# Altium integrated library Xilinx Virtex.IntLib: 240 symbols (part 29 of 34)
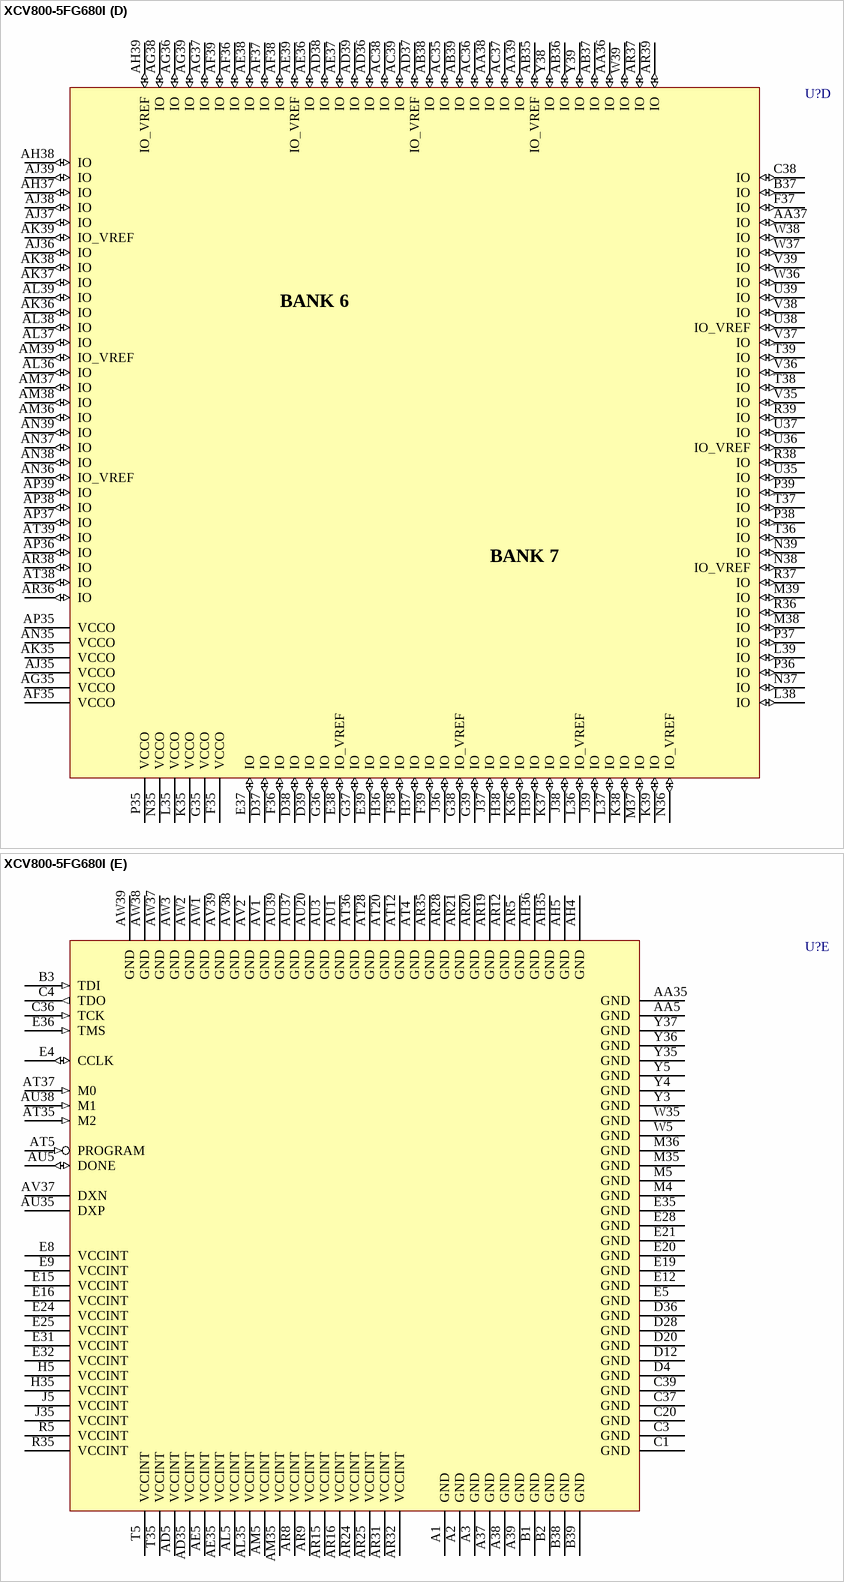
[diagram p408: symbol XCV800-5FG680I]

## XCV800-5FG680I
designator U?
Virtex 2.5V FPGA, 680-Ball FBGA, Industrial Grade; PackageDocument: ver1.1, Apr-2001; Note: Solder pads are defined by the copper, i.e. non-soldermask defined (NSMD); Published: 19-Sep-2001; LatestRevisionDate: 17-Jul-2002; LatestRevisionNote: Re-released for DXP Platform.; DatasheetDocument: Dec-2002; PackageReference: FG680; Publisher: Altium Limited
footprint FG680 (680-Ball Fine Pitch Ball Grid Array (FG680))
3D model XCV800-FG680 (680-Ball Fine Pitch Ball Grid Array (FG680))
signal-integrity model XCV800_FG680 (Virtex)
part A pins: A4 IO (io), A5 IO (io), A6 IO (io), A7 IO (io), A8 IO (io), A9 IO (io), A10 IO (io), A11 IO (io), A12 IO (io), A13 IO (io), A14 IO (io), A15 IO (io), A16 IO (io), A17 IO (io), A18 IO (io), A19 IO (io), A20 GCK3 (in), A21 IO (io), A22 IO (io), A23 IO (io), A24 IO (io), A25 IO (io), A26 IO_VREF (io), A27 IO (io), A28 IO (io), A29 IO (io), A30 IO (io), A31 IO (io), A32 IO (io), A33 IO_VREF (io), A34 IO (io), A35 IO (io), A36 IO (io), B4 IO_WRITE (io), B5 IO (io), B6 IO_VREF (io), B7 IO (io), B8 IO_VREF (io), B9 IO (io), B10 IO (io), B11 IO (io), B12 IO (io), B13 IO (io), B14 IO_VREF (io), B15 IO (io), B16 IO (io), B17 IO (io), B18 IO_VREF (io), B19 IO (io), B20 IO (io), B21 IO (io), B22 IO (io), B23 IO (io), B24 IO (io), B25 IO (io), B26 IO (io), B27 IO (io), B28 IO_VREF (io), B29 IO (io), B30 IO_VREF (io), B31 IO (io), B32 IO (io), B33 IO (io), B34 IO (io), B35 IO (io), B36 IO (io), C5 IO (io), C6 IO (io), C7 IO (io), C8 IO (io), C9 IO (io), C10 IO (io), C11 IO (io), C12 IO (io), C13 IO (io), C14 IO (io), C15 IO (io), C16 IO (io), C17 IO (io), C18 IO (io), C19 IO (io), C21 IO (io), C22 IO (io), C23 IO_VREF (io), C24 IO_VREF (io), C25 IO (io), C26 IO (io), C27 IO (io), C28 IO (io), C29 IO (io), C30 IO (io), C31 IO (io), C32 IO (io), C33 IO (io), C34 IO (io), C35 IO (io), D5 IO_CS (io), D6 IO (io), D7 IO (io), D8 IO (io), D9 IO (io), D10 IO (io), D11 IO_VREF (io), D13 IO_VREF (io), D14 IO (io), D15 IO (io), D16 IO (io), D17 IO_VREF (io), D18 IO (io), D19 IO (io), D21 GCK2 (in), D22 IO (io), D23 IO (io), D24 IO (io), D25 IO (io), D26 IO (io), D27 IO (io), D29 IO (io), D30 IO (io), D31 IO (io), D32 IO (io), D33 IO_VREF (io), D34 IO (io), D35 IO (io), E6 VCCO (power), E7 VCCO (power), E10 VCCO (power), E11 VCCO (power), E13 VCCO (power), E14 VCCO (power), E17 IO (io), E18 IO (io), E22 IO (io), E23 IO (io), E26 VCCO (power), E27 VCCO (power), E29 VCCO (power), E30 VCCO (power), E33 VCCO (power), E34 VCCO (power)
part B pins: AA1 IO (io), AA2 IO (io), AA3 IO (io), AA4 IO (io), AB1 IO (io), AB2 IO (io), AB3 IO (io), AB4 IO (io), AB5 IO (io), AC1 IO_VREF (io), AC2 IO (io), AC3 IO (io), AC4 IO (io), AC5 IO (io), AD1 IO (io), AD2 IO (io), AD3 IO_D4 (io), AD4 IO (io), AE1 IO (io), AE2 IO (io), AE3 IO (io), AE4 IO (io), AF1 IO (io), AF2 IO (io), AF3 IO_VREF (io), AF4 IO (io), AF5 VCCO (power), AG1 IO (io), AG2 IO_D5 (io), AG3 IO (io), AG4 IO (io), AG5 VCCO (power), AH1 IO_D6 (io), AH2 IO (io), AH3 IO (io), AJ1 IO (io), AJ2 IO_VREF (io), AJ3 IO (io), AJ4 IO (io), AJ5 VCCO (power), AK1 IO (io), AK2 IO (io), AK3 IO_VREF (io), AK4 IO (io), AK5 VCCO (power), AL1 IO (io), AL2 IO (io), AL3 IO (io), AL4 IO_VREF (io), AM1 IO (io), AM2 IO (io), AM3 IO (io), AM4 IO (io), AN1 IO (io), AN2 IO (io), AN3 IO (io), AN4 IO (io), AN5 VCCO (power), AP1 IO (io), AP2 IO (io), AP3 IO (io), AP4 IO (io), AP5 VCCO (power), AR1 IO_VREF (io), AR2 IO (io), AR3 IO (io), AR4 IO_D7 (io), AT1 IO (io), AT2 IO (io), AT3 IO (io), AU2 IO_INIT (io), C2 IO_DIN_D0 (io), D1 IO (io), D2 IO (io), D3 IO (io), E1 IO (io), E2 IO (io), E3 IO_DOUT_BUSY (io), F1 IO (io), F2 IO (io), F3 IO (io), F4 IO (io), F5 VCCO (power), G1 IO_VREF (io), G2 IO (io), G3 IO (io), G4 IO (io), G5 VCCO (power), H1 IO (io), H2 IO (io), H3 IO (io), H4 IO_VREF (io), J1 IO_VREF (io), J2 IO (io), J3 IO (io), J4 IO (io), K1 IO (io), K2 IO (io), K3 IO (io), K4 IO (io), K5 VCCO (power), L1 IO (io), L2 IO_VREF (io), L3 IO (io), L4 IO (io), L5 VCCO (power), M1 IO (io), M2 IO (io), M3 IO (io), N1 IO_VREF (io), N2 IO (io), N3 IO (io), N4 IO (io), N5 VCCO (power), P1 IO (io), P2 IO (io), P3 IO_D2 (io), P4 IO_D1 (io), P5 VCCO (power), R1 IO_D3 (io), R2 IO (io), R3 IO (io), R4 IO (io), T1 IO (io), T2 IO (io), T3 IO (io), T4 IO (io), U1 IO (io), U2 IO (io), U3 IO (io), U4 IO (io), U5 IO (io), V1 IO (io), V2 IO (io), V3 IO (io), V4 IO (io), V5 IO_VREF (io), W1 IO (io), W2 IO (io), W3 IO_VREF (io), W4 IO (io), Y1 IO_VREF (io), Y2 IO (io)
part C pins: AR6 VCCO (power), AR7 VCCO (power), AR10 VCCO (power), AR11 VCCO (power), AR13 VCCO (power), AR14 VCCO (power), AR17 IO (io), AR18 IO (io), AR22 IO (io), AR23 IO (io), AR26 VCCO (power), AR27 VCCO (power), AR29 VCCO (power), AR30 VCCO (power), AR33 VCCO (power), AR34 VCCO (power), AT6 IO (io), AT7 IO (io), AT8 IO (io), AT9 IO (io), AT10 IO (io), AT11 IO (io), AT13 IO (io), AT14 IO (io), AT15 IO (io), AT16 IO (io), AT17 IO (io), AT18 IO (io), AT19 IO_VREF (io), AT21 IO (io), AT22 IO (io), AT23 IO (io), AT24 IO (io), AT25 IO_VREF (io), AT26 IO (io), AT27 IO_VREF (io), AT29 IO (io), AT30 IO (io), AT31 IO (io), AT32 IO (io), AT33 IO (io), AT34 IO (io), AU4 IO (io), AU6 IO (io), AU7 IO_VREF (io), AU8 IO (io), AU9 IO (io), AU10 IO (io), AU11 IO (io), AU12 IO (io), AU13 IO (io), AU14 IO (io), AU15 IO (io), AU16 IO (io), AU17 IO_VREF (io), AU18 IO (io), AU19 IO (io), AU21 IO (io), AU22 GCK1 (in), AU23 IO (io), AU24 IO (io), AU25 IO (io), AU26 IO (io), AU27 IO (io), AU28 IO (io), AU29 IO_VREF (io), AU30 IO (io), AU31 IO_VREF (io), AU32 IO (io), AU33 IO (io), AU34 IO (io), AU36 IO (io), AV3 IO (io), AV4 IO (io), AV5 IO (io), AV6 IO (io), AV7 IO (io), AV8 IO_VREF (io), AV9 IO (io), AV10 IO_VREF (io), AV11 IO (io), AV12 IO (io), AV13 IO (io), AV14 IO_VREF (io), AV15 IO (io), AV16 IO (io), AV17 IO (io), AV18 IO (io), AV19 IO (io), AV20 IO (io), AV21 IO (io), AV22 IO (io), AV23 IO (io), AV24 IO (io), AV25 IO (io), AV26 IO (io), AV27 IO (io), AV28 IO (io), AV29 IO (io), AV30 IO (io), AV31 IO (io), AV32 IO (io), AV33 IO (io), AV34 IO (io), AV35 IO_VREF (io), AV36 IO (io), AW4 IO (io), AW5 IO (io), AW6 IO (io), AW7 IO (io), AW8 IO (io), AW9 IO (io), AW10 IO (io), AW11 IO_VREF (io), AW12 IO (io), AW13 IO (io), AW14 IO (io), AW15 IO (io), AW16 IO (io), AW17 IO (io), AW18 IO (io), AW19 GCK0 (in), AW20 IO (io), AW21 IO_VREF (io), AW22 IO (io), AW23 IO_VREF (io), AW24 IO (io), AW25 IO (io), AW26 IO (io), AW27 IO (io), AW28 IO (io), AW29 IO (io), AW30 IO (io), AW31 IO (io), AW32 IO (io), AW33 IO (io), AW34 IO (io), AW35 IO (io), AW36 IO (io)
part D pins: AA36 IO (io), AA37 IO (io), AA38 IO (io), AA39 IO (io), AB35 IO_VREF (io), AB36 IO (io), AB37 IO (io), AB38 IO (io), AB39 IO (io), AC35 IO (io), AC36 IO (io), AC37 IO (io), AC38 IO (io), AC39 IO (io), AD36 IO (io), AD37 IO_VREF (io), AD38 IO (io), AD39 IO (io), AE36 IO (io), AE37 IO (io), AE38 IO (io), AE39 IO_VREF (io), AF35 VCCO (power), AF36 IO (io), AF37 IO (io), AF38 IO (io), AF39 IO (io), AG35 VCCO (power), AG36 IO (io), AG37 IO (io), AG38 IO (io), AG39 IO (io), AH37 IO (io), AH38 IO (io), AH39 IO_VREF (io), AJ35 VCCO (power), AJ36 IO (io), AJ37 IO (io), AJ38 IO (io), AJ39 IO (io), AK35 VCCO (power), AK36 IO (io), AK37 IO (io), AK38 IO (io), AK39 IO_VREF (io), AL36 IO (io), AL37 IO (io), AL38 IO (io), AL39 IO (io), AM36 IO (io), AM37 IO (io), AM38 IO (io), AM39 IO_VREF (io), AN35 VCCO (power), AN36 IO_VREF (io), AN37 IO (io), AN38 IO (io), AN39 IO (io), AP35 VCCO (power), AP36 IO (io), AP37 IO (io), AP38 IO (io), AP39 IO (io), AR36 IO (io), AR37 IO (io), AR38 IO (io), AR39 IO (io), AT38 IO (io), AT39 IO (io), B37 IO (io), C38 IO (io), D37 IO (io), D38 IO (io), D39 IO (io), E37 IO (io), E38 IO_VREF (io), E39 IO (io), F35 VCCO (power), F36 IO (io), F37 IO (io), F38 IO (io), F39 IO (io), G35 VCCO (power), G36 IO (io), G37 IO (io), G38 IO_VREF (io), G39 IO (io), H36 IO (io), H37 IO (io), H38 IO (io), H39 IO (io), J36 IO (io), J37 IO (io), J38 IO (io), J39 IO (io), K35 VCCO (power), K36 IO (io), K37 IO (io), K38 IO (io), K39 IO (io), L35 VCCO (power), L36 IO_VREF (io), L37 IO (io), L38 IO (io), L39 IO (io), M37 IO (io), M38 IO (io), M39 IO (io), N35 VCCO (power), N36 IO_VREF (io), N37 IO (io), N38 IO_VREF (io), N39 IO (io), P35 VCCO (power), P36 IO (io), P37 IO (io), P38 IO (io), P39 IO (io), R36 IO (io), R37 IO (io), R38 IO (io), R39 IO (io), T36 IO (io), T37 IO (io), T38 IO (io), T39 IO (io), U35 IO (io), U36 IO_VREF (io), U37 IO (io), U38 IO_VREF (io), U39 IO (io), V35 IO (io), V36 IO (io), V37 IO (io), V38 IO (io), V39 IO (io), W36 IO (io), W37 IO (io), W38 IO (io), W39 IO (io), Y38 IO (io), Y39 IO (io)
part E pins: A1 GND (power), A2 GND (power), A3 GND (power), A37 GND (power), A38 GND (power), A39 GND (power), AA5 GND (power), AA35 GND (power), AD5 VCCINT (power), AD35 VCCINT (power), AE5 VCCINT (power), AE35 VCCINT (power), AH4 GND (power), AH5 GND (power), AH35 GND (power), AH36 GND (power), AL5 VCCINT (power), AL35 VCCINT (power), AM5 VCCINT (power), AM35 VCCINT (power), AR5 GND (power), AR8 VCCINT (power), AR9 VCCINT (power), AR12 GND (power), AR15 VCCINT (power), AR16 VCCINT (power), AR19 GND (power), AR20 GND (power), AR21 GND (power), AR24 VCCINT (power), AR25 VCCINT (power), AR28 GND (power), AR31 VCCINT (power), AR32 VCCINT (power), AR35 GND (power), AT4 GND (power), AT5 PROGRAM (in), AT12 GND (power), AT20 GND (power), AT28 GND (power), AT35 M2 (in), AT36 GND (power), AT37 M0 (in), AU1 GND (power), AU3 GND (power), AU5 DONE (io), AU20 GND (power), AU35 DXP, AU37 GND (power), AU38 M1 (in), AU39 GND (power), AV1 GND (power), AV2 GND (power), AV37 DXN, AV38 GND (power), AV39 GND (power), AW1 GND (power), AW2 GND (power), AW3 GND (power), AW37 GND (power), AW38 GND (power), AW39 GND (power), B1 GND (power), B2 GND (power), B3 TDI (in), B38 GND (power), B39 GND (power), C1 GND (power), C3 GND (power), C4 TDO (out), C20 GND (power), C36 TCK (in), C37 GND (power), C39 GND (power), D4 GND (power), D12 GND (power), D20 GND (power), D28 GND (power), D36 GND (power), E4 CCLK (io), E5 GND (power), E8 VCCINT (power), E9 VCCINT (power), E12 GND (power), E15 VCCINT (power), E16 VCCINT (power), E19 GND (power), E20 GND (power), E21 GND (power), E24 VCCINT (power), E25 VCCINT (power), E28 GND (power), E31 VCCINT (power), E32 VCCINT (power), E35 GND (power), E36 TMS (in), H5 VCCINT (power), H35 VCCINT (power), J5 VCCINT (power), J35 VCCINT (power), M4 GND (power), M5 GND (power), M35 GND (power), M36 GND (power), R5 VCCINT (power), R35 VCCINT (power), T5 VCCINT (power), T35 VCCINT (power), W5 GND (power), W35 GND (power), Y3 GND (power), Y4 GND (power), Y5 GND (power), Y35 GND (power), Y36 GND (power), Y37 GND (power)
part A text: BANK 0; BANK 1
part B text: BANK 2; BANK 3
part C text: BANK 4; BANK 5
part D text: BANK 6; BANK 7

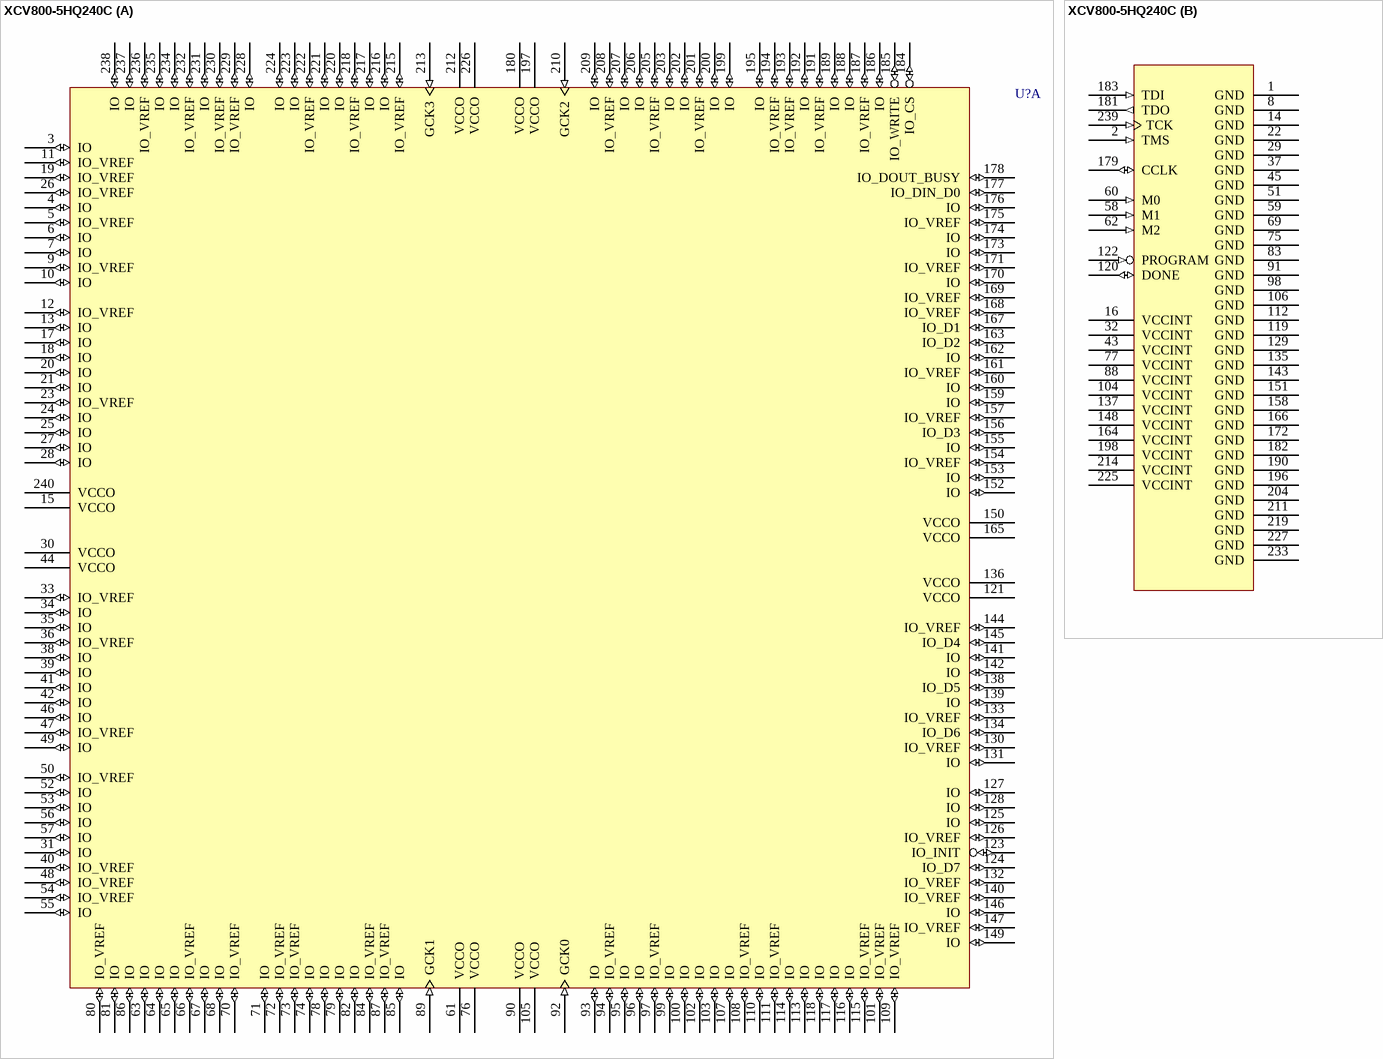
[diagram p328: symbol XCV800-5HQ240C]

## XCV800-5HQ240C
designator U?
Virtex 2.5V FPGA, 240-Pin HQFP, Commercial Grade; PackageDocument: ver1.1, Oct-2002; Published: 19-Sep-2001; LatestRevisionDate: 17-Jul-2002; LatestRevisionNote: Re-released for DXP Platform.; DatasheetDocument: Dec-2002; PackageReference: HQ240; Publisher: Altium Limited; Code_JEDEC: MO-143-GA
footprint HQ240 (240-Pin Heat Sink Quad Flat Pack (HQ240))
3D model XCV800-HQ240 (240-Pin Heat Sink Quad Flat Pack (HQ240))
signal-integrity model XCV800_HQ240 (Virtex)
part A pins: 3 IO (io), 4 IO (io), 5 IO_VREF (io), 6 IO (io), 7 IO (io), 9 IO_VREF (io), 10 IO (io), 11 IO_VREF (io), 12 IO_VREF (io), 13 IO (io), 15 VCCO (power), 17 IO (io), 18 IO (io), 19 IO_VREF (io), 20 IO (io), 21 IO (io), 23 IO_VREF (io), 24 IO (io), 25 IO (io), 26 IO_VREF (io), 27 IO (io), 28 IO (io), 30 VCCO (power), 31 IO (io), 33 IO_VREF (io), 34 IO (io), 35 IO (io), 36 IO_VREF (io), 38 IO (io), 39 IO (io), 40 IO_VREF (io), 41 IO (io), 42 IO (io), 44 VCCO (power), 46 IO (io), 47 IO_VREF (io), 48 IO_VREF (io), 49 IO (io), 50 IO_VREF (io), 52 IO (io), 53 IO (io), 54 IO_VREF (io), 55 IO (io), 56 IO (io), 57 IO (io), 61 VCCO (power), 63 IO (io), 64 IO (io), 65 IO (io), 66 IO_VREF (io), 67 IO (io), 68 IO (io), 70 IO_VREF (io), 71 IO (io), 72 IO_VREF (io), 73 IO_VREF (io), 74 IO (io), 76 VCCO (power), 78 IO (io), 79 IO (io), 80 IO_VREF (io), 81 IO (io), 82 IO (io), 84 IO_VREF (io), 85 IO (io), 86 IO (io), 87 IO_VREF (io), 89 GCK1 (in), 90 VCCO (power), 92 GCK0 (in), 93 IO (io), 94 IO_VREF (io), 95 IO (io), 96 IO (io), 97 IO_VREF (io), 99 IO (io), 100 IO (io), 101 IO_VREF (io), 102 IO (io), 103 IO (io), 105 VCCO (power), 107 IO (io), 108 IO_VREF (io), 109 IO_VREF (io), 110 IO (io), 111 IO_VREF (io), 113 IO (io), 114 IO (io), 115 IO_VREF (io), 116 IO (io), 117 IO (io), 118 IO (io), 121 VCCO (power), 123 IO_INIT (io), 124 IO_D7 (io), 125 IO (io), 126 IO_VREF (io), 127 IO (io), 128 IO (io), 130 IO_VREF (io), 131 IO (io), 132 IO_VREF (io), 133 IO_VREF (io), 134 IO_D6 (io), 136 VCCO (power), 138 IO_D5 (io), 139 IO (io), 140 IO_VREF (io), 141 IO (io), 142 IO (io), 144 IO_VREF (io), 145 IO_D4 (io), 146 IO (io), 147 IO_VREF (io), 149 IO (io), 150 VCCO (power), 152 IO (io), 153 IO (io), 154 IO_VREF (io), 155 IO (io), 156 IO_D3 (io), 157 IO_VREF (io), 159 IO (io), 160 IO (io), 161 IO_VREF (io), 162 IO (io), 163 IO_D2 (io), 165 VCCO (power), 167 IO_D1 (io), 168 IO_VREF (io), 169 IO_VREF (io), 170 IO (io), 171 IO_VREF (io), 173 IO (io), 174 IO (io), 175 IO_VREF (io), 176 IO (io), 177 IO_DIN_D0 (io), 178 IO_DOUT_BUSY (io), 180 VCCO (power), 184 IO_CS (io), 185 IO_WRITE (io), 186 IO (io), 187 IO_VREF (io), 188 IO (io), 189 IO (io), 191 IO_VREF (io), 192 IO (io), 193 IO_VREF (io), 194 IO_VREF (io), 195 IO (io), 197 VCCO (power), 199 IO (io), 200 IO (io), 201 IO_VREF (io), 202 IO (io), 203 IO (io), 205 IO_VREF (io), 206 IO (io), 207 IO (io), 208 IO_VREF (io), 209 IO (io), 210 GCK2 (in), 212 VCCO (power), 213 GCK3 (in), 215 IO_VREF (io), 216 IO (io), 217 IO (io), 218 IO_VREF (io), 220 IO (io), 221 IO (io), 222 IO_VREF (io), 223 IO (io), 224 IO (io), 226 VCCO (power), 228 IO (io), 229 IO_VREF (io), 230 IO_VREF (io), 231 IO (io), 232 IO_VREF (io), 234 IO (io), 235 IO (io), 236 IO_VREF (io), 237 IO (io), 238 IO (io), 240 VCCO (power)
part B pins: 1 GND (power), 2 TMS (in), 8 GND (power), 14 GND (power), 16 VCCINT (power), 22 GND (power), 29 GND (power), 32 VCCINT (power), 37 GND (power), 43 VCCINT (power), 45 GND (power), 51 GND (power), 58 M1 (in), 59 GND (power), 60 M0 (in), 62 M2 (in), 69 GND (power), 75 GND (power), 77 VCCINT (power), 83 GND (power), 88 VCCINT (power), 91 GND (power), 98 GND (power), 104 VCCINT (power), 106 GND (power), 112 GND (power), 119 GND (power), 120 DONE (io), 122 PROGRAM (in), 129 GND (power), 135 GND (power), 137 VCCINT (power), 143 GND (power), 148 VCCINT (power), 151 GND (power), 158 GND (power), 164 VCCINT (power), 166 GND (power), 172 GND (power), 179 CCLK (io), 181 TDO (out), 182 GND (power), 183 TDI (in), 190 GND (power), 196 GND (power), 198 VCCINT (power), 204 GND (power), 211 GND (power), 214 VCCINT (power), 219 GND (power), 225 VCCINT (power), 227 GND (power), 233 GND (power), 239 TCK (in)

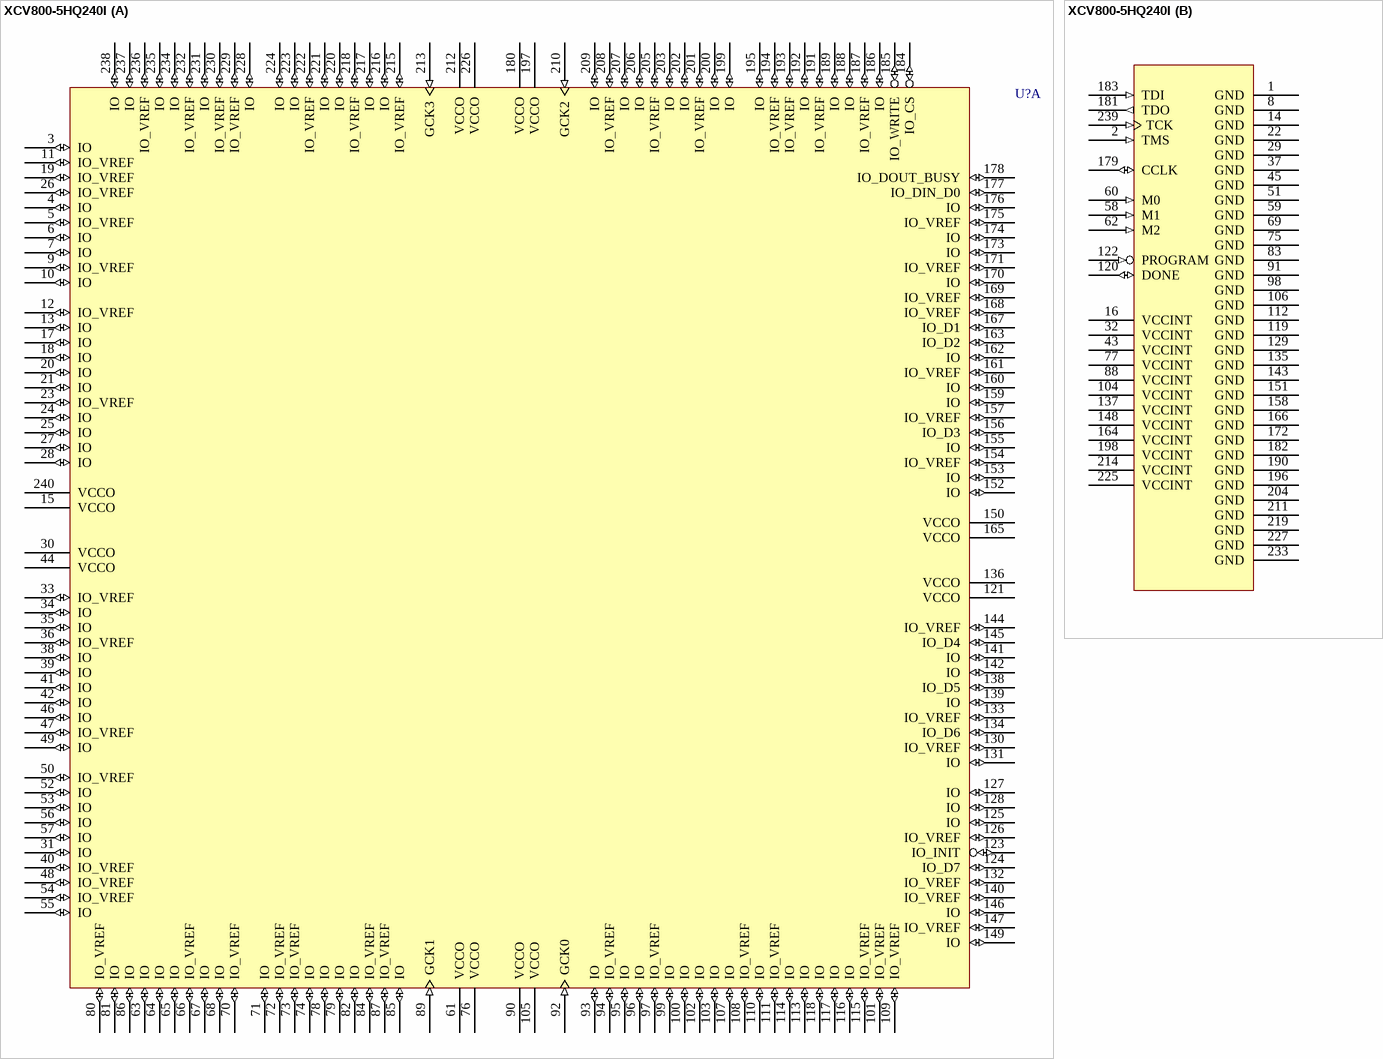
[diagram p329: symbol XCV800-5HQ240I]

## XCV800-5HQ240I
designator U?
Virtex 2.5V FPGA, 240-Pin HQFP, Industrial Grade; PackageDocument: ver1.1, Oct-2002; Published: 19-Sep-2001; LatestRevisionDate: 17-Jul-2002; LatestRevisionNote: Re-released for DXP Platform.; DatasheetDocument: Dec-2002; PackageReference: HQ240; Publisher: Altium Limited; Code_JEDEC: MO-143-GA
footprint HQ240 (240-Pin Heat Sink Quad Flat Pack (HQ240))
3D model XCV800-HQ240 (240-Pin Heat Sink Quad Flat Pack (HQ240))
signal-integrity model XCV800_HQ240 (Virtex)
part A pins: 3 IO (io), 4 IO (io), 5 IO_VREF (io), 6 IO (io), 7 IO (io), 9 IO_VREF (io), 10 IO (io), 11 IO_VREF (io), 12 IO_VREF (io), 13 IO (io), 15 VCCO (power), 17 IO (io), 18 IO (io), 19 IO_VREF (io), 20 IO (io), 21 IO (io), 23 IO_VREF (io), 24 IO (io), 25 IO (io), 26 IO_VREF (io), 27 IO (io), 28 IO (io), 30 VCCO (power), 31 IO (io), 33 IO_VREF (io), 34 IO (io), 35 IO (io), 36 IO_VREF (io), 38 IO (io), 39 IO (io), 40 IO_VREF (io), 41 IO (io), 42 IO (io), 44 VCCO (power), 46 IO (io), 47 IO_VREF (io), 48 IO_VREF (io), 49 IO (io), 50 IO_VREF (io), 52 IO (io), 53 IO (io), 54 IO_VREF (io), 55 IO (io), 56 IO (io), 57 IO (io), 61 VCCO (power), 63 IO (io), 64 IO (io), 65 IO (io), 66 IO_VREF (io), 67 IO (io), 68 IO (io), 70 IO_VREF (io), 71 IO (io), 72 IO_VREF (io), 73 IO_VREF (io), 74 IO (io), 76 VCCO (power), 78 IO (io), 79 IO (io), 80 IO_VREF (io), 81 IO (io), 82 IO (io), 84 IO_VREF (io), 85 IO (io), 86 IO (io), 87 IO_VREF (io), 89 GCK1 (in), 90 VCCO (power), 92 GCK0 (in), 93 IO (io), 94 IO_VREF (io), 95 IO (io), 96 IO (io), 97 IO_VREF (io), 99 IO (io), 100 IO (io), 101 IO_VREF (io), 102 IO (io), 103 IO (io), 105 VCCO (power), 107 IO (io), 108 IO_VREF (io), 109 IO_VREF (io), 110 IO (io), 111 IO_VREF (io), 113 IO (io), 114 IO (io), 115 IO_VREF (io), 116 IO (io), 117 IO (io), 118 IO (io), 121 VCCO (power), 123 IO_INIT (io), 124 IO_D7 (io), 125 IO (io), 126 IO_VREF (io), 127 IO (io), 128 IO (io), 130 IO_VREF (io), 131 IO (io), 132 IO_VREF (io), 133 IO_VREF (io), 134 IO_D6 (io), 136 VCCO (power), 138 IO_D5 (io), 139 IO (io), 140 IO_VREF (io), 141 IO (io), 142 IO (io), 144 IO_VREF (io), 145 IO_D4 (io), 146 IO (io), 147 IO_VREF (io), 149 IO (io), 150 VCCO (power), 152 IO (io), 153 IO (io), 154 IO_VREF (io), 155 IO (io), 156 IO_D3 (io), 157 IO_VREF (io), 159 IO (io), 160 IO (io), 161 IO_VREF (io), 162 IO (io), 163 IO_D2 (io), 165 VCCO (power), 167 IO_D1 (io), 168 IO_VREF (io), 169 IO_VREF (io), 170 IO (io), 171 IO_VREF (io), 173 IO (io), 174 IO (io), 175 IO_VREF (io), 176 IO (io), 177 IO_DIN_D0 (io), 178 IO_DOUT_BUSY (io), 180 VCCO (power), 184 IO_CS (io), 185 IO_WRITE (io), 186 IO (io), 187 IO_VREF (io), 188 IO (io), 189 IO (io), 191 IO_VREF (io), 192 IO (io), 193 IO_VREF (io), 194 IO_VREF (io), 195 IO (io), 197 VCCO (power), 199 IO (io), 200 IO (io), 201 IO_VREF (io), 202 IO (io), 203 IO (io), 205 IO_VREF (io), 206 IO (io), 207 IO (io), 208 IO_VREF (io), 209 IO (io), 210 GCK2 (in), 212 VCCO (power), 213 GCK3 (in), 215 IO_VREF (io), 216 IO (io), 217 IO (io), 218 IO_VREF (io), 220 IO (io), 221 IO (io), 222 IO_VREF (io), 223 IO (io), 224 IO (io), 226 VCCO (power), 228 IO (io), 229 IO_VREF (io), 230 IO_VREF (io), 231 IO (io), 232 IO_VREF (io), 234 IO (io), 235 IO (io), 236 IO_VREF (io), 237 IO (io), 238 IO (io), 240 VCCO (power)
part B pins: 1 GND (power), 2 TMS (in), 8 GND (power), 14 GND (power), 16 VCCINT (power), 22 GND (power), 29 GND (power), 32 VCCINT (power), 37 GND (power), 43 VCCINT (power), 45 GND (power), 51 GND (power), 58 M1 (in), 59 GND (power), 60 M0 (in), 62 M2 (in), 69 GND (power), 75 GND (power), 77 VCCINT (power), 83 GND (power), 88 VCCINT (power), 91 GND (power), 98 GND (power), 104 VCCINT (power), 106 GND (power), 112 GND (power), 119 GND (power), 120 DONE (io), 122 PROGRAM (in), 129 GND (power), 135 GND (power), 137 VCCINT (power), 143 GND (power), 148 VCCINT (power), 151 GND (power), 158 GND (power), 164 VCCINT (power), 166 GND (power), 172 GND (power), 179 CCLK (io), 181 TDO (out), 182 GND (power), 183 TDI (in), 190 GND (power), 196 GND (power), 198 VCCINT (power), 204 GND (power), 211 GND (power), 214 VCCINT (power), 219 GND (power), 225 VCCINT (power), 227 GND (power), 233 GND (power), 239 TCK (in)

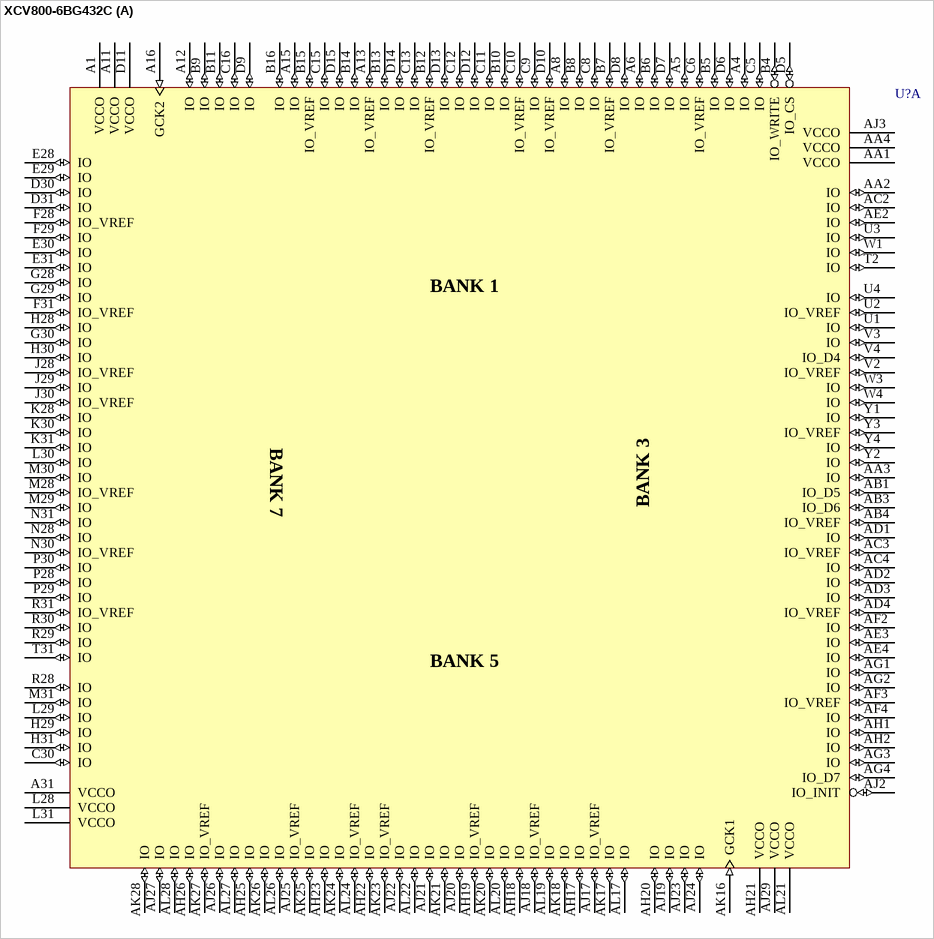
[diagram p330: symbol XCV800-6BG432C]

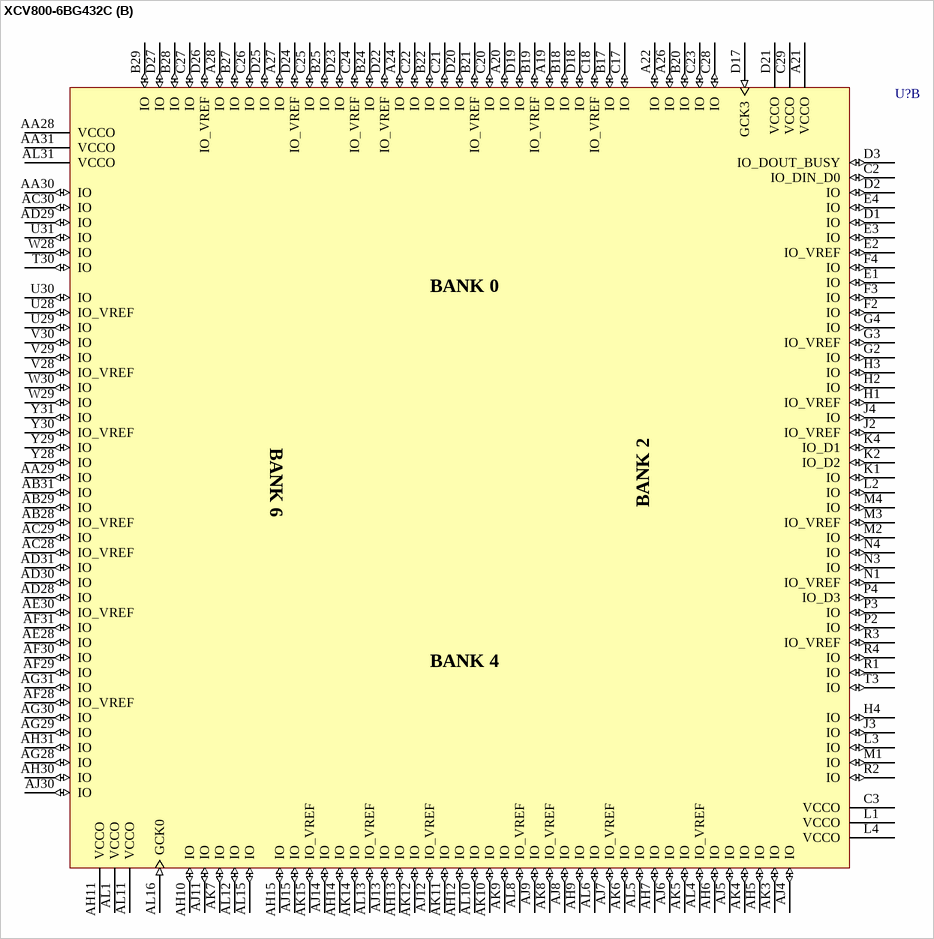
[diagram p331: symbol XCV800-6BG432C]

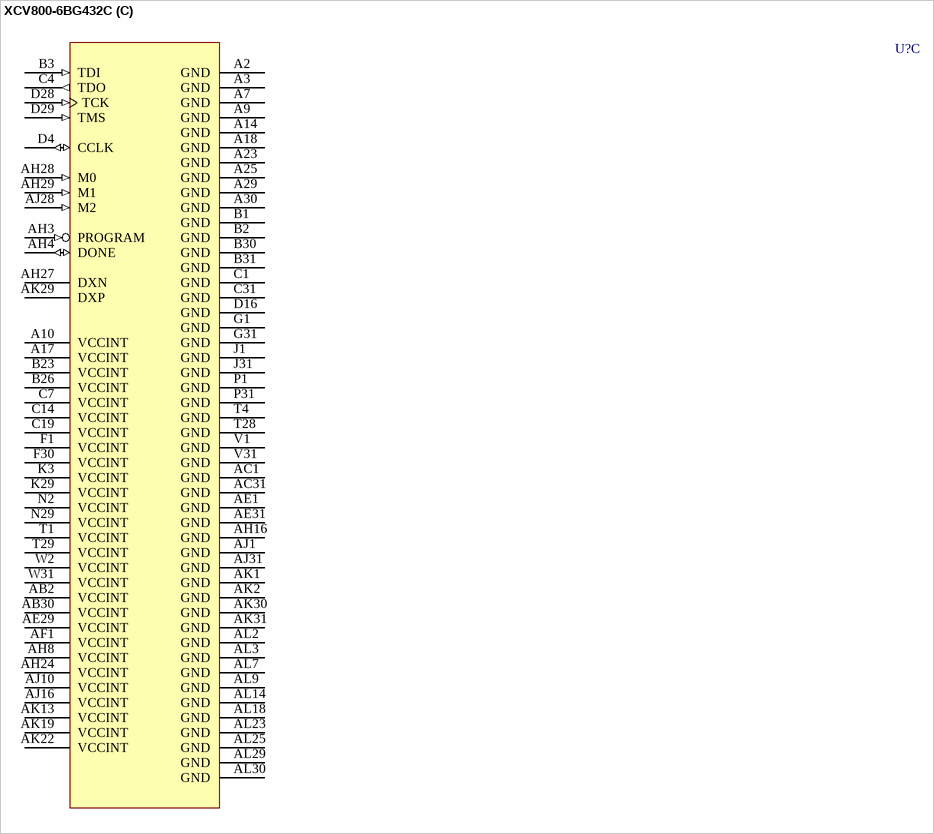
[diagram p332: symbol XCV800-6BG432C]

## XCV800-6BG432C
designator U?
Virtex 2.5V FPGA, 432-Ball BGA, Commercial Grade; PackageDocument: ver1.1, Apr-2001; Note: Solder pads are defined by the copper, i.e. non-soldermask defined (NSMD); Published: 19-Sep-2001; LatestRevisionDate: 17-Jul-2002; LatestRevisionNote: Re-released for DXP Platform.; DatasheetDocument: Dec-2002; PackageReference: BG432; Publisher: Altium Limited
footprint BG432 (432-Ball Metal Ball Grid Array (BG432))
3D model XCV800-BG432 (432-Ball Metal Ball Grid Array (BG432))
signal-integrity model XCV800_BG432 (Virtex)
part A pins: A1 VCCO (power), A4 IO (io), A5 IO (io), A6 IO (io), A8 IO (io), A11 VCCO (power), A12 IO (io), A13 IO_VREF (io), A15 IO (io), A16 GCK2 (in), A31 VCCO (power), AA1 VCCO (power), AA2 IO (io), AA3 IO (io), AA4 VCCO (power), AB1 IO_D5 (io), AB3 IO_D6 (io), AB4 IO_VREF (io), AC2 IO (io), AC3 IO_VREF (io), AC4 IO (io), AD1 IO (io), AD2 IO (io), AD3 IO (io), AD4 IO_VREF (io), AE2 IO (io), AE3 IO (io), AE4 IO (io), AF2 IO (io), AF3 IO_VREF (io), AF4 IO (io), AG1 IO (io), AG2 IO (io), AG3 IO (io), AG4 IO_D7 (io), AH1 IO (io), AH2 IO (io), AH17 IO (io), AH18 IO (io), AH19 IO_VREF (io), AH20 IO (io), AH21 VCCO (power), AH22 IO (io), AH23 IO (io), AH25 IO (io), AH26 IO (io), AJ2 IO_INIT (io), AJ3 VCCO (power), AJ17 IO_VREF (io), AJ18 IO_VREF (io), AJ19 IO (io), AJ20 IO (io), AJ21 IO (io), AJ22 IO (io), AJ23 IO (io), AJ24 IO (io), AJ25 IO_VREF (io), AJ26 IO (io), AJ27 IO (io), AJ29 VCCO (power), AK16 GCK1 (in), AK17 IO (io), AK18 IO (io), AK20 IO (io), AK21 IO (io), AK23 IO_VREF (io), AK24 IO (io), AK25 IO (io), AK26 IO (io), AK27 IO_VREF (io), AK28 IO (io), AL17 IO (io), AL19 IO (io), AL20 IO (io), AL21 VCCO (power), AL22 IO (io), AL24 IO_VREF (io), AL26 IO (io), AL27 IO (io), AL28 IO (io), B4 IO_WRITE (io), B5 IO (io), B6 IO (io), B7 IO_VREF (io), B8 IO (io), B9 IO (io), B10 IO (io), B11 IO (io), B12 IO_VREF (io), B13 IO (io), B14 IO (io), B15 IO_VREF (io), B16 IO (io), C5 IO (io), C6 IO_VREF (io), C8 IO (io), C9 IO (io), C10 IO_VREF (io), C11 IO (io), C12 IO (io), C13 IO (io), C15 IO (io), C16 IO (io), C30 IO (io), D5 IO_CS (io), D6 IO (io), D7 IO (io), D8 IO (io), D9 IO (io), D10 IO_VREF (io), D11 VCCO (power), D12 IO (io), D13 IO (io), D14 IO (io), D15 IO (io), D30 IO (io), D31 IO (io), E28 IO (io), E29 IO (io), E30 IO (io), E31 IO (io), F28 IO_VREF (io), F29 IO (io), F31 IO_VREF (io), G28 IO (io), G29 IO (io), G30 IO (io), H28 IO (io), H29 IO (io), H30 IO (io), H31 IO (io), J28 IO_VREF (io), J29 IO (io), J30 IO_VREF (io), K28 IO (io), K30 IO (io), K31 IO (io), L28 VCCO (power), L29 IO (io), L30 IO (io), L31 VCCO (power), M28 IO_VREF (io), M29 IO (io), M30 IO (io), M31 IO (io), N28 IO (io), N30 IO_VREF (io), N31 IO (io), P28 IO (io), P29 IO (io), P30 IO (io), R28 IO (io), R29 IO (io), R30 IO (io), R31 IO_VREF (io), T2 IO (io), T31 IO (io), U1 IO (io), U2 IO_VREF (io), U3 IO (io), U4 IO (io), V2 IO_VREF (io), V3 IO (io), V4 IO_D4 (io), W1 IO (io), W3 IO (io), W4 IO (io), Y1 IO (io), Y2 IO (io), Y3 IO_VREF (io), Y4 IO (io)
part B pins: A19 IO (io), A20 IO (io), A21 VCCO (power), A22 IO (io), A24 IO (io), A26 IO (io), A27 IO (io), A28 IO (io), AA28 VCCO (power), AA29 IO (io), AA30 IO (io), AA31 VCCO (power), AB28 IO_VREF (io), AB29 IO (io), AB31 IO (io), AC28 IO_VREF (io), AC29 IO (io), AC30 IO (io), AD28 IO (io), AD29 IO (io), AD30 IO (io), AD31 IO (io), AE28 IO (io), AE30 IO_VREF (io), AF28 IO_VREF (io), AF29 IO (io), AF30 IO (io), AF31 IO (io), AG28 IO (io), AG29 IO (io), AG30 IO (io), AG31 IO (io), AH5 IO (io), AH6 IO (io), AH7 IO (io), AH9 IO (io), AH10 IO (io), AH11 VCCO (power), AH12 IO (io), AH13 IO (io), AH14 IO (io), AH15 IO (io), AH30 IO (io), AH31 IO (io), AJ4 IO (io), AJ5 IO (io), AJ6 IO (io), AJ7 IO_VREF (io), AJ8 IO (io), AJ9 IO (io), AJ11 IO (io), AJ12 IO_VREF (io), AJ13 IO (io), AJ14 IO (io), AJ15 IO (io), AJ30 IO (io), AK3 IO (io), AK4 IO (io), AK5 IO (io), AK6 IO (io), AK7 IO (io), AK8 IO_VREF (io), AK9 IO (io), AK10 IO (io), AK11 IO (io), AK12 IO (io), AK14 IO (io), AK15 IO_VREF (io), AL1 VCCO (power), AL4 IO_VREF (io), AL5 IO (io), AL6 IO (io), AL8 IO_VREF (io), AL10 IO (io), AL11 VCCO (power), AL12 IO (io), AL13 IO_VREF (io), AL15 IO (io), AL16 GCK0 (in), AL31 VCCO (power), B17 IO (io), B18 IO (io), B19 IO_VREF (io), B20 IO (io), B21 IO_VREF (io), B22 IO (io), B24 IO (io), B25 IO (io), B27 IO (io), B28 IO (io), B29 IO (io), C2 IO_DIN_D0 (io), C3 VCCO (power), C17 IO (io), C18 IO_VREF (io), C20 IO (io), C21 IO (io), C22 IO (io), C23 IO (io), C24 IO_VREF (io), C25 IO (io), C26 IO (io), C27 IO (io), C28 IO (io), C29 VCCO (power), D1 IO (io), D2 IO (io), D3 IO_DOUT_BUSY (io), D17 GCK3 (in), D18 IO (io), D19 IO (io), D20 IO (io), D21 VCCO (power), D22 IO_VREF (io), D23 IO (io), D24 IO_VREF (io), D25 IO (io), D26 IO_VREF (io), D27 IO (io), E1 IO (io), E2 IO_VREF (io), E3 IO (io), E4 IO (io), F2 IO (io), F3 IO (io), F4 IO (io), G2 IO (io), G3 IO_VREF (io), G4 IO (io), H1 IO_VREF (io), H2 IO (io), H3 IO (io), H4 IO (io), J2 IO_VREF (io), J3 IO (io), J4 IO (io), K1 IO (io), K2 IO_D2 (io), K4 IO_D1 (io), L1 VCCO (power), L2 IO (io), L3 IO (io), L4 VCCO (power), M1 IO (io), M2 IO (io), M3 IO_VREF (io), M4 IO (io), N1 IO_VREF (io), N3 IO (io), N4 IO (io), P2 IO (io), P3 IO (io), P4 IO_D3 (io), R1 IO (io), R2 IO (io), R3 IO_VREF (io), R4 IO (io), T3 IO (io), T30 IO (io), U28 IO_VREF (io), U29 IO (io), U30 IO (io), U31 IO (io), V28 IO_VREF (io), V29 IO (io), V30 IO (io), W28 IO (io), W29 IO (io), W30 IO (io), Y28 IO (io), Y29 IO (io), Y30 IO_VREF (io), Y31 IO (io)
part C pins: A2 GND (power), A3 GND (power), A7 GND (power), A9 GND (power), A10 VCCINT (power), A14 GND (power), A17 VCCINT (power), A18 GND (power), A23 GND (power), A25 GND (power), A29 GND (power), A30 GND (power), AB2 VCCINT (power), AB30 VCCINT (power), AC1 GND (power), AC31 GND (power), AE1 GND (power), AE29 VCCINT (power), AE31 GND (power), AF1 VCCINT (power), AH3 PROGRAM (in), AH4 DONE (io), AH8 VCCINT (power), AH16 GND (power), AH24 VCCINT (power), AH27 DXN, AH28 M0 (in), AH29 M1 (in), AJ1 GND (power), AJ10 VCCINT (power), AJ16 VCCINT (power), AJ28 M2 (in), AJ31 GND (power), AK1 GND (power), AK2 GND (power), AK13 VCCINT (power), AK19 VCCINT (power), AK22 VCCINT (power), AK29 DXP, AK30 GND (power), AK31 GND (power), AL2 GND (power), AL3 GND (power), AL7 GND (power), AL9 GND (power), AL14 GND (power), AL18 GND (power), AL23 GND (power), AL25 GND (power), AL29 GND (power), AL30 GND (power), B1 GND (power), B2 GND (power), B3 TDI (in), B23 VCCINT (power), B26 VCCINT (power), B30 GND (power), B31 GND (power), C1 GND (power), C4 TDO (out), C7 VCCINT (power), C14 VCCINT (power), C19 VCCINT (power), C31 GND (power), D4 CCLK (io), D16 GND (power), D28 TCK (in), D29 TMS (in), F1 VCCINT (power), F30 VCCINT (power), G1 GND (power), G31 GND (power), J1 GND (power), J31 GND (power), K3 VCCINT (power), K29 VCCINT (power), N2 VCCINT (power), N29 VCCINT (power), P1 GND (power), P31 GND (power), T1 VCCINT (power), T4 GND (power), T28 GND (power), T29 VCCINT (power), V1 GND (power), V31 GND (power), W2 VCCINT (power), W31 VCCINT (power)
part A text: BANK 1; BANK 7; BANK 3; BANK 5
part B text: BANK 0; BANK 6; BANK 2; BANK 4

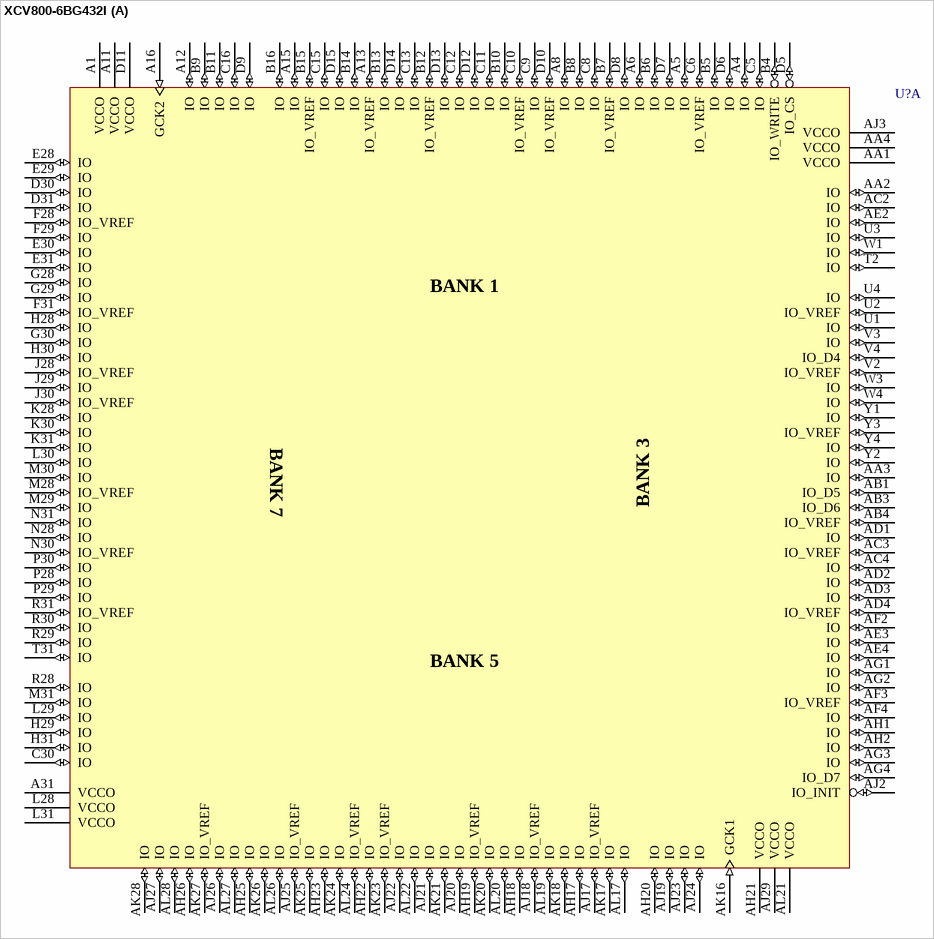
[diagram p333: symbol XCV800-6BG432I]

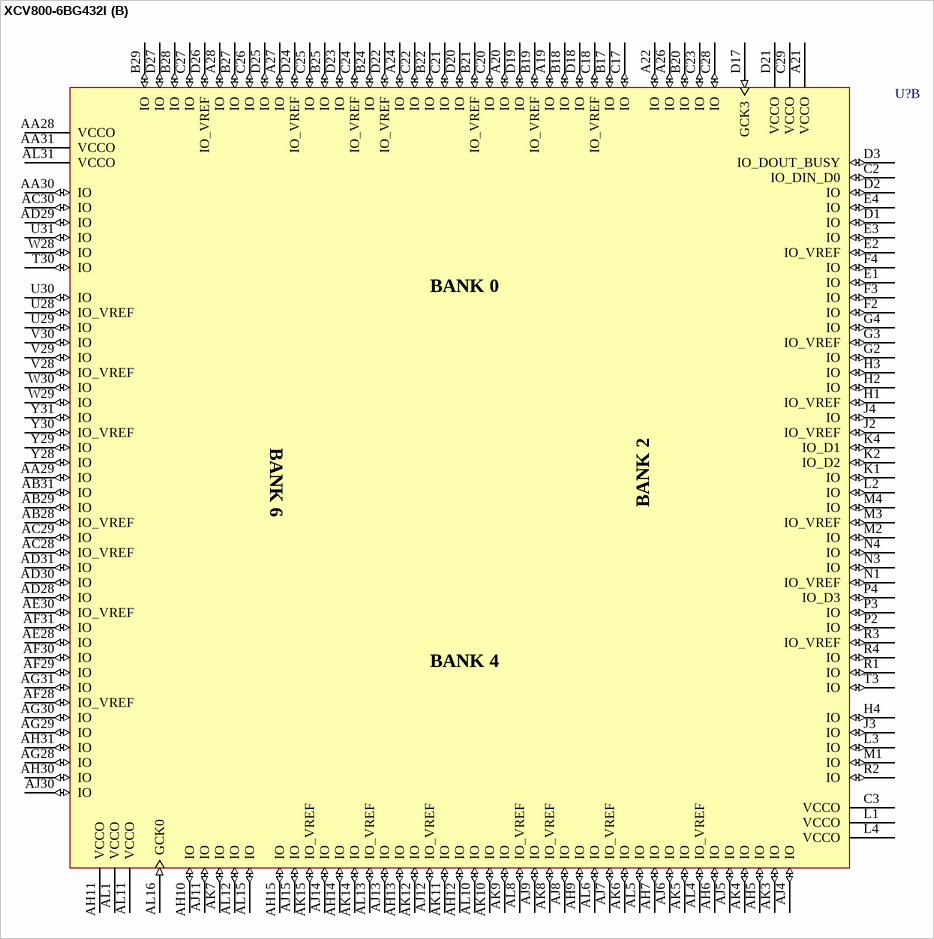
[diagram p334: symbol XCV800-6BG432I]

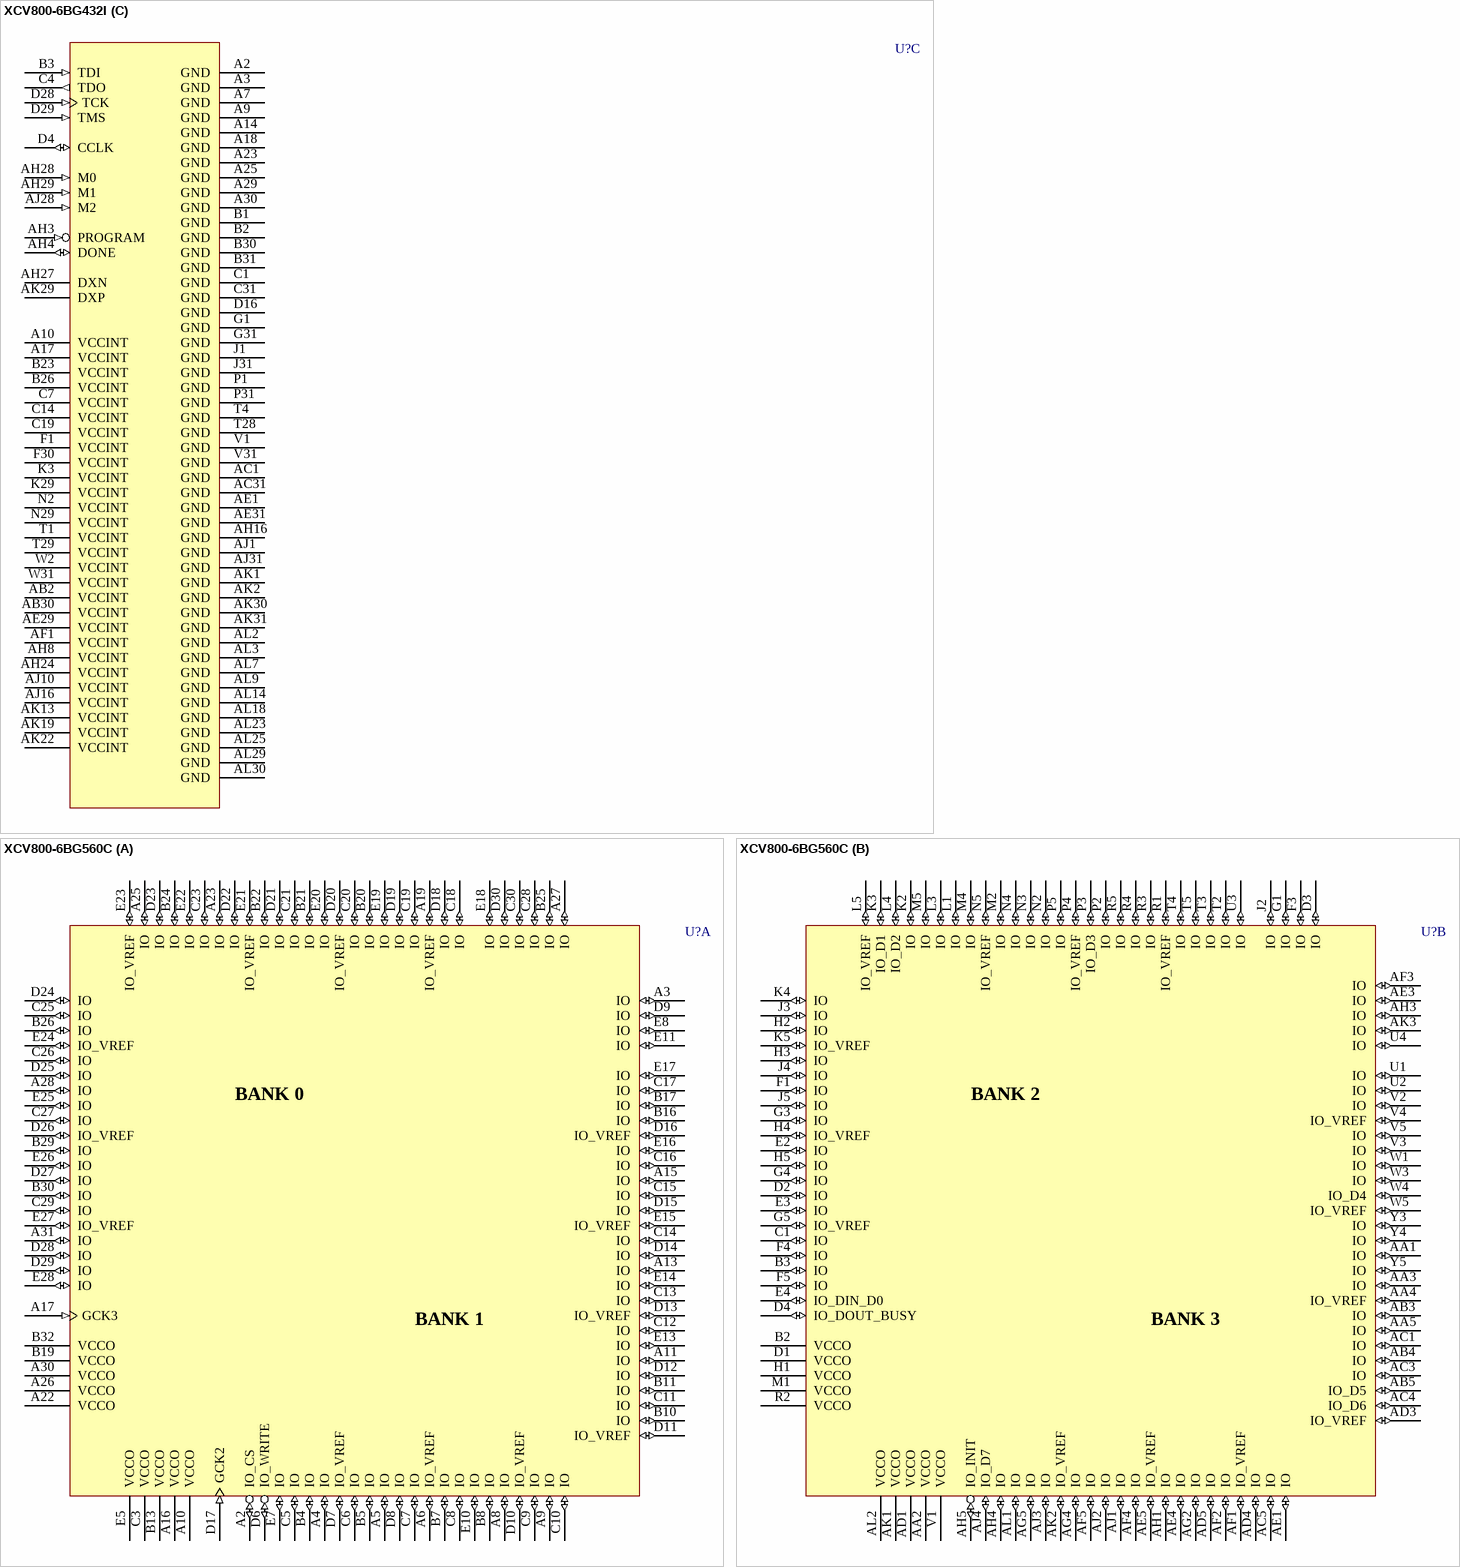
[diagram p335: symbols XCV800-6BG432I to XCV800-6BG560C]

## XCV800-6BG432I
designator U?
Virtex 2.5V FPGA, 432-Ball BGA, Industrial Grade; PackageDocument: ver1.1, Apr-2001; Note: Solder pads are defined by the copper, i.e. non-soldermask defined (NSMD); Published: 19-Sep-2001; LatestRevisionDate: 17-Jul-2002; LatestRevisionNote: Re-released for DXP Platform.; DatasheetDocument: Dec-2002; PackageReference: BG432; Publisher: Altium Limited
footprint BG432 (432-Ball Metal Ball Grid Array (BG432))
3D model XCV800-BG432 (432-Ball Metal Ball Grid Array (BG432))
signal-integrity model XCV800_BG432 (Virtex)
part A pins: A1 VCCO (power), A4 IO (io), A5 IO (io), A6 IO (io), A8 IO (io), A11 VCCO (power), A12 IO (io), A13 IO_VREF (io), A15 IO (io), A16 GCK2 (in), A31 VCCO (power), AA1 VCCO (power), AA2 IO (io), AA3 IO (io), AA4 VCCO (power), AB1 IO_D5 (io), AB3 IO_D6 (io), AB4 IO_VREF (io), AC2 IO (io), AC3 IO_VREF (io), AC4 IO (io), AD1 IO (io), AD2 IO (io), AD3 IO (io), AD4 IO_VREF (io), AE2 IO (io), AE3 IO (io), AE4 IO (io), AF2 IO (io), AF3 IO_VREF (io), AF4 IO (io), AG1 IO (io), AG2 IO (io), AG3 IO (io), AG4 IO_D7 (io), AH1 IO (io), AH2 IO (io), AH17 IO (io), AH18 IO (io), AH19 IO_VREF (io), AH20 IO (io), AH21 VCCO (power), AH22 IO (io), AH23 IO (io), AH25 IO (io), AH26 IO (io), AJ2 IO_INIT (io), AJ3 VCCO (power), AJ17 IO_VREF (io), AJ18 IO_VREF (io), AJ19 IO (io), AJ20 IO (io), AJ21 IO (io), AJ22 IO (io), AJ23 IO (io), AJ24 IO (io), AJ25 IO_VREF (io), AJ26 IO (io), AJ27 IO (io), AJ29 VCCO (power), AK16 GCK1 (in), AK17 IO (io), AK18 IO (io), AK20 IO (io), AK21 IO (io), AK23 IO_VREF (io), AK24 IO (io), AK25 IO (io), AK26 IO (io), AK27 IO_VREF (io), AK28 IO (io), AL17 IO (io), AL19 IO (io), AL20 IO (io), AL21 VCCO (power), AL22 IO (io), AL24 IO_VREF (io), AL26 IO (io), AL27 IO (io), AL28 IO (io), B4 IO_WRITE (io), B5 IO (io), B6 IO (io), B7 IO_VREF (io), B8 IO (io), B9 IO (io), B10 IO (io), B11 IO (io), B12 IO_VREF (io), B13 IO (io), B14 IO (io), B15 IO_VREF (io), B16 IO (io), C5 IO (io), C6 IO_VREF (io), C8 IO (io), C9 IO (io), C10 IO_VREF (io), C11 IO (io), C12 IO (io), C13 IO (io), C15 IO (io), C16 IO (io), C30 IO (io), D5 IO_CS (io), D6 IO (io), D7 IO (io), D8 IO (io), D9 IO (io), D10 IO_VREF (io), D11 VCCO (power), D12 IO (io), D13 IO (io), D14 IO (io), D15 IO (io), D30 IO (io), D31 IO (io), E28 IO (io), E29 IO (io), E30 IO (io), E31 IO (io), F28 IO_VREF (io), F29 IO (io), F31 IO_VREF (io), G28 IO (io), G29 IO (io), G30 IO (io), H28 IO (io), H29 IO (io), H30 IO (io), H31 IO (io), J28 IO_VREF (io), J29 IO (io), J30 IO_VREF (io), K28 IO (io), K30 IO (io), K31 IO (io), L28 VCCO (power), L29 IO (io), L30 IO (io), L31 VCCO (power), M28 IO_VREF (io), M29 IO (io), M30 IO (io), M31 IO (io), N28 IO (io), N30 IO_VREF (io), N31 IO (io), P28 IO (io), P29 IO (io), P30 IO (io), R28 IO (io), R29 IO (io), R30 IO (io), R31 IO_VREF (io), T2 IO (io), T31 IO (io), U1 IO (io), U2 IO_VREF (io), U3 IO (io), U4 IO (io), V2 IO_VREF (io), V3 IO (io), V4 IO_D4 (io), W1 IO (io), W3 IO (io), W4 IO (io), Y1 IO (io), Y2 IO (io), Y3 IO_VREF (io), Y4 IO (io)
part B pins: A19 IO (io), A20 IO (io), A21 VCCO (power), A22 IO (io), A24 IO (io), A26 IO (io), A27 IO (io), A28 IO (io), AA28 VCCO (power), AA29 IO (io), AA30 IO (io), AA31 VCCO (power), AB28 IO_VREF (io), AB29 IO (io), AB31 IO (io), AC28 IO_VREF (io), AC29 IO (io), AC30 IO (io), AD28 IO (io), AD29 IO (io), AD30 IO (io), AD31 IO (io), AE28 IO (io), AE30 IO_VREF (io), AF28 IO_VREF (io), AF29 IO (io), AF30 IO (io), AF31 IO (io), AG28 IO (io), AG29 IO (io), AG30 IO (io), AG31 IO (io), AH5 IO (io), AH6 IO (io), AH7 IO (io), AH9 IO (io), AH10 IO (io), AH11 VCCO (power), AH12 IO (io), AH13 IO (io), AH14 IO (io), AH15 IO (io), AH30 IO (io), AH31 IO (io), AJ4 IO (io), AJ5 IO (io), AJ6 IO (io), AJ7 IO_VREF (io), AJ8 IO (io), AJ9 IO (io), AJ11 IO (io), AJ12 IO_VREF (io), AJ13 IO (io), AJ14 IO (io), AJ15 IO (io), AJ30 IO (io), AK3 IO (io), AK4 IO (io), AK5 IO (io), AK6 IO (io), AK7 IO (io), AK8 IO_VREF (io), AK9 IO (io), AK10 IO (io), AK11 IO (io), AK12 IO (io), AK14 IO (io), AK15 IO_VREF (io), AL1 VCCO (power), AL4 IO_VREF (io), AL5 IO (io), AL6 IO (io), AL8 IO_VREF (io), AL10 IO (io), AL11 VCCO (power), AL12 IO (io), AL13 IO_VREF (io), AL15 IO (io), AL16 GCK0 (in), AL31 VCCO (power), B17 IO (io), B18 IO (io), B19 IO_VREF (io), B20 IO (io), B21 IO_VREF (io), B22 IO (io), B24 IO (io), B25 IO (io), B27 IO (io), B28 IO (io), B29 IO (io), C2 IO_DIN_D0 (io), C3 VCCO (power), C17 IO (io), C18 IO_VREF (io), C20 IO (io), C21 IO (io), C22 IO (io), C23 IO (io), C24 IO_VREF (io), C25 IO (io), C26 IO (io), C27 IO (io), C28 IO (io), C29 VCCO (power), D1 IO (io), D2 IO (io), D3 IO_DOUT_BUSY (io), D17 GCK3 (in), D18 IO (io), D19 IO (io), D20 IO (io), D21 VCCO (power), D22 IO_VREF (io), D23 IO (io), D24 IO_VREF (io), D25 IO (io), D26 IO_VREF (io), D27 IO (io), E1 IO (io), E2 IO_VREF (io), E3 IO (io), E4 IO (io), F2 IO (io), F3 IO (io), F4 IO (io), G2 IO (io), G3 IO_VREF (io), G4 IO (io), H1 IO_VREF (io), H2 IO (io), H3 IO (io), H4 IO (io), J2 IO_VREF (io), J3 IO (io), J4 IO (io), K1 IO (io), K2 IO_D2 (io), K4 IO_D1 (io), L1 VCCO (power), L2 IO (io), L3 IO (io), L4 VCCO (power), M1 IO (io), M2 IO (io), M3 IO_VREF (io), M4 IO (io), N1 IO_VREF (io), N3 IO (io), N4 IO (io), P2 IO (io), P3 IO (io), P4 IO_D3 (io), R1 IO (io), R2 IO (io), R3 IO_VREF (io), R4 IO (io), T3 IO (io), T30 IO (io), U28 IO_VREF (io), U29 IO (io), U30 IO (io), U31 IO (io), V28 IO_VREF (io), V29 IO (io), V30 IO (io), W28 IO (io), W29 IO (io), W30 IO (io), Y28 IO (io), Y29 IO (io), Y30 IO_VREF (io), Y31 IO (io)
part C pins: A2 GND (power), A3 GND (power), A7 GND (power), A9 GND (power), A10 VCCINT (power), A14 GND (power), A17 VCCINT (power), A18 GND (power), A23 GND (power), A25 GND (power), A29 GND (power), A30 GND (power), AB2 VCCINT (power), AB30 VCCINT (power), AC1 GND (power), AC31 GND (power), AE1 GND (power), AE29 VCCINT (power), AE31 GND (power), AF1 VCCINT (power), AH3 PROGRAM (in), AH4 DONE (io), AH8 VCCINT (power), AH16 GND (power), AH24 VCCINT (power), AH27 DXN, AH28 M0 (in), AH29 M1 (in), AJ1 GND (power), AJ10 VCCINT (power), AJ16 VCCINT (power), AJ28 M2 (in), AJ31 GND (power), AK1 GND (power), AK2 GND (power), AK13 VCCINT (power), AK19 VCCINT (power), AK22 VCCINT (power), AK29 DXP, AK30 GND (power), AK31 GND (power), AL2 GND (power), AL3 GND (power), AL7 GND (power), AL9 GND (power), AL14 GND (power), AL18 GND (power), AL23 GND (power), AL25 GND (power), AL29 GND (power), AL30 GND (power), B1 GND (power), B2 GND (power), B3 TDI (in), B23 VCCINT (power), B26 VCCINT (power), B30 GND (power), B31 GND (power), C1 GND (power), C4 TDO (out), C7 VCCINT (power), C14 VCCINT (power), C19 VCCINT (power), C31 GND (power), D4 CCLK (io), D16 GND (power), D28 TCK (in), D29 TMS (in), F1 VCCINT (power), F30 VCCINT (power), G1 GND (power), G31 GND (power), J1 GND (power), J31 GND (power), K3 VCCINT (power), K29 VCCINT (power), N2 VCCINT (power), N29 VCCINT (power), P1 GND (power), P31 GND (power), T1 VCCINT (power), T4 GND (power), T28 GND (power), T29 VCCINT (power), V1 GND (power), V31 GND (power), W2 VCCINT (power), W31 VCCINT (power)
part A text: BANK 1; BANK 7; BANK 3; BANK 5
part B text: BANK 0; BANK 6; BANK 2; BANK 4

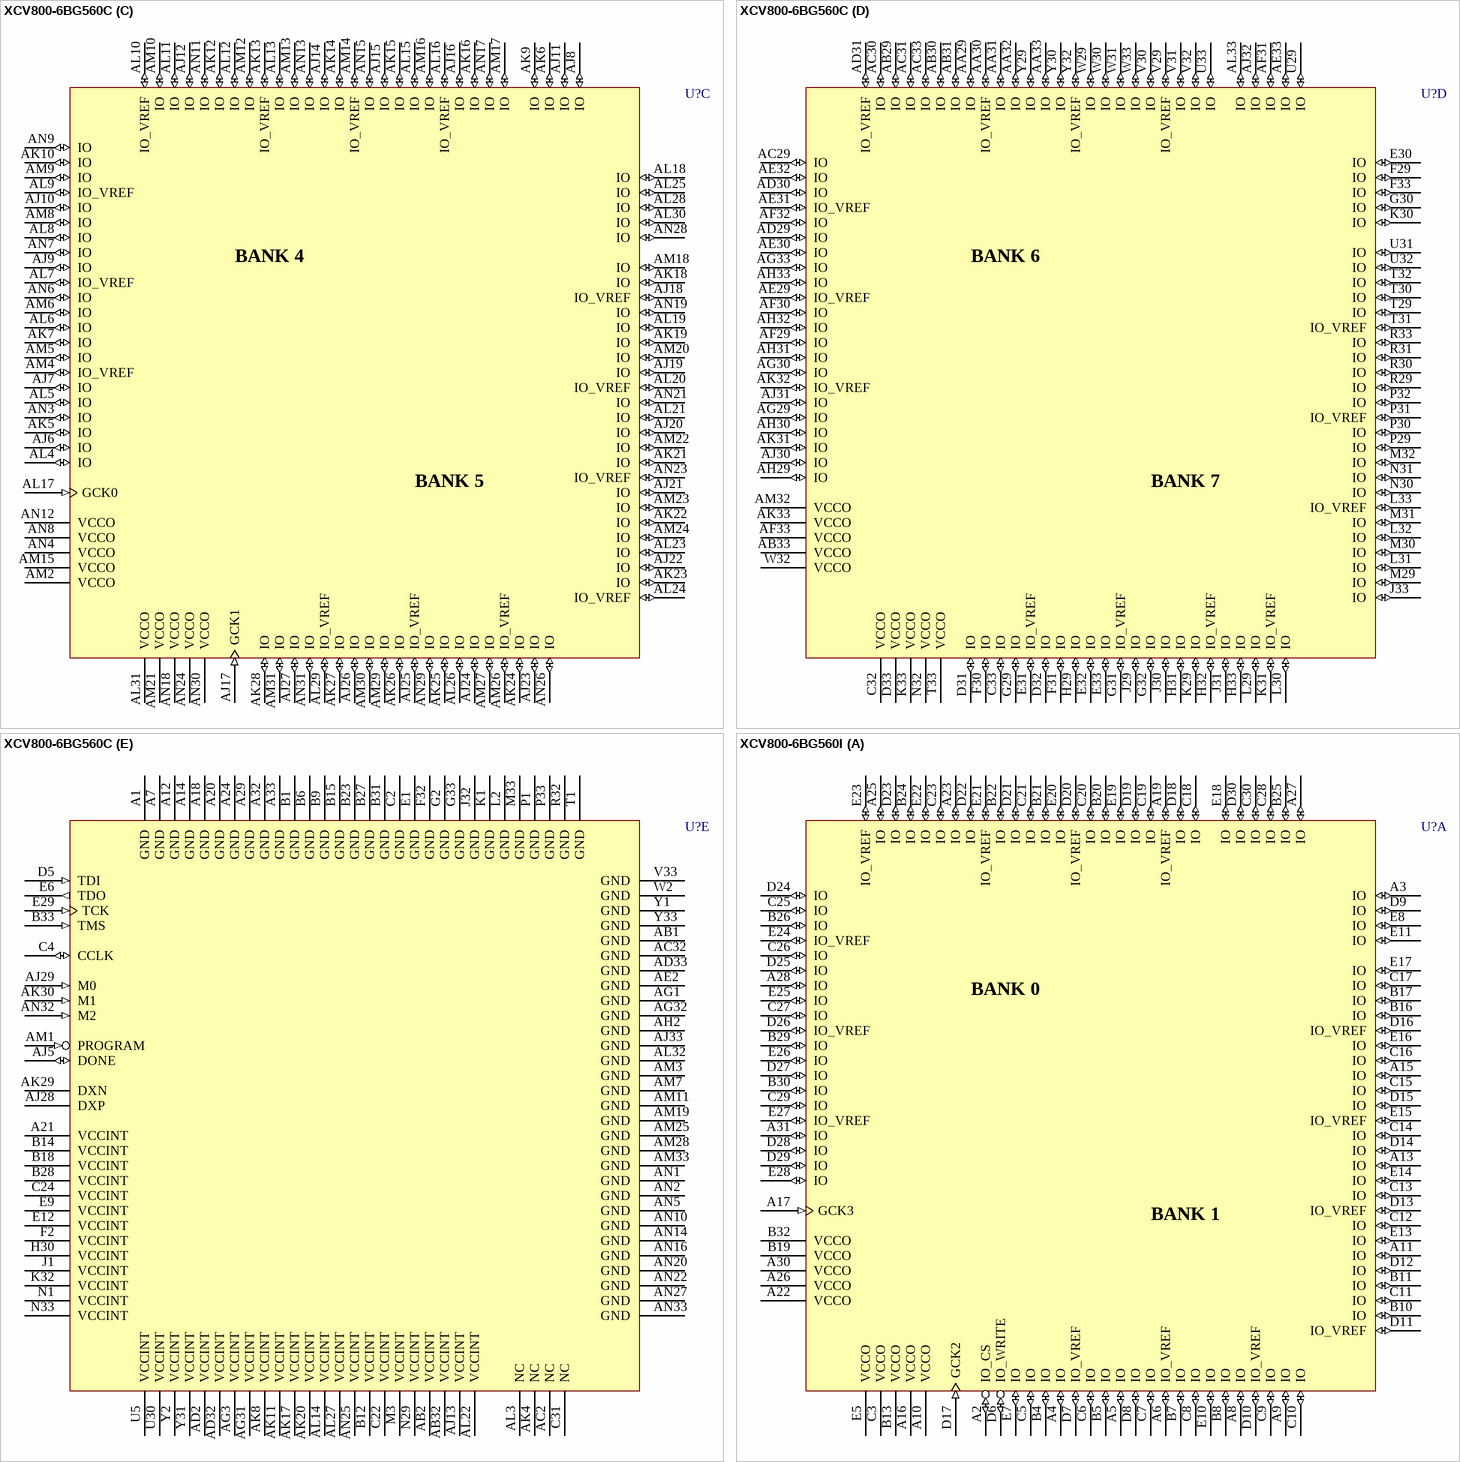
[diagram p336: symbols XCV800-6BG560C to XCV800-6BG560I]

## XCV800-6BG560C
designator U?
Virtex 2.5V FPGA, 560-Ball BGA, Commercial Grade; PackageDocument: ver1.1, Apr-2001; Note: Solder pads are defined by the copper, i.e. non-soldermask defined (NSMD); Published: 19-Sep-2001; LatestRevisionDate: 17-Jul-2002; LatestRevisionNote: Re-released for DXP Platform.; DatasheetDocument: Dec-2002; PackageReference: BG560; Publisher: Altium Limited
footprint BG560 (560-Ball Metal Ball Grid Array (BG560))
3D model XCV800-BG560 (560-Ball Metal Ball Grid Array (BG560))
signal-integrity model XCV800_BG560 (Virtex)
part A pins: A2 IO_CS (io), A3 IO (io), A4 IO (io), A5 IO (io), A6 IO_VREF (io), A8 IO (io), A9 IO (io), A10 VCCO (power), A11 IO (io), A13 IO (io), A15 IO (io), A16 VCCO (power), A17 GCK3 (in), A19 IO_VREF (io), A22 VCCO (power), A23 IO (io), A25 IO (io), A26 VCCO (power), A27 IO (io), A28 IO (io), A30 VCCO (power), A31 IO (io), B4 IO (io), B5 IO (io), B7 IO (io), B8 IO (io), B10 IO (io), B11 IO (io), B13 VCCO (power), B16 IO (io), B17 IO (io), B19 VCCO (power), B20 IO (io), B21 IO (io), B22 IO (io), B24 IO (io), B25 IO (io), B26 IO (io), B29 IO (io), B30 IO (io), B32 VCCO (power), C3 VCCO (power), C5 IO (io), C6 IO (io), C7 IO (io), C8 IO (io), C9 IO (io), C10 IO (io), C11 IO (io), C12 IO (io), C13 IO (io), C14 IO (io), C15 IO (io), C16 IO (io), C17 IO (io), C18 IO (io), C19 IO (io), C20 IO (io), C21 IO (io), C23 IO (io), C25 IO (io), C26 IO (io), C27 IO (io), C28 IO (io), C29 IO (io), C30 IO (io), D6 IO_WRITE (io), D7 IO_VREF (io), D8 IO (io), D9 IO (io), D10 IO_VREF (io), D11 IO_VREF (io), D12 IO (io), D13 IO_VREF (io), D14 IO (io), D15 IO (io), D16 IO_VREF (io), D17 GCK2 (in), D18 IO (io), D19 IO (io), D20 IO_VREF (io), D21 IO (io), D22 IO (io), D23 IO (io), D24 IO (io), D25 IO (io), D26 IO_VREF (io), D27 IO (io), D28 IO (io), D29 IO (io), D30 IO (io), E5 VCCO (power), E7 IO (io), E8 IO (io), E10 IO (io), E11 IO (io), E13 IO (io), E14 IO (io), E15 IO_VREF (io), E16 IO (io), E17 IO (io), E18 IO (io), E19 IO (io), E20 IO (io), E21 IO_VREF (io), E22 IO (io), E23 IO_VREF (io), E24 IO_VREF (io), E25 IO (io), E26 IO (io), E27 IO_VREF (io), E28 IO (io)
part B pins: AA1 IO (io), AA2 VCCO (power), AA3 IO (io), AA4 IO_VREF (io), AA5 IO (io), AB3 IO (io), AB4 IO (io), AB5 IO_D5 (io), AC1 IO (io), AC3 IO (io), AC4 IO_D6 (io), AC5 IO (io), AD1 VCCO (power), AD3 IO_VREF (io), AD4 IO (io), AD5 IO (io), AE1 IO (io), AE3 IO (io), AE4 IO (io), AE5 IO_VREF (io), AF1 IO_VREF (io), AF2 IO (io), AF3 IO (io), AF4 IO (io), AF5 IO (io), AG2 IO (io), AG4 IO (io), AG5 IO (io), AH1 IO (io), AH3 IO (io), AH4 IO (io), AH5 IO_INIT (io), AJ1 IO (io), AJ2 IO (io), AJ3 IO (io), AJ4 IO_D7 (io), AK1 VCCO (power), AK2 IO_VREF (io), AK3 IO (io), AL1 IO (io), AL2 VCCO (power), B2 VCCO (power), B3 IO (io), C1 IO (io), D1 VCCO (power), D2 IO (io), D3 IO (io), D4 IO_DOUT_BUSY (io), E2 IO (io), E3 IO (io), E4 IO_DIN_D0 (io), F1 IO (io), F3 IO (io), F4 IO (io), F5 IO (io), G1 IO (io), G3 IO (io), G4 IO (io), G5 IO_VREF (io), H1 VCCO (power), H2 IO (io), H3 IO (io), H4 IO_VREF (io), H5 IO (io), J2 IO (io), J3 IO (io), J4 IO (io), J5 IO (io), K2 IO (io), K3 IO_D1 (io), K4 IO (io), K5 IO_VREF (io), L1 IO (io), L3 IO (io), L4 IO_D2 (io), L5 IO_VREF (io), M1 VCCO (power), M2 IO (io), M4 IO (io), M5 IO (io), N2 IO (io), N3 IO (io), N4 IO (io), N5 IO_VREF (io), P2 IO (io), P3 IO_D3 (io), P4 IO_VREF (io), P5 IO (io), R1 IO_VREF (io), R2 VCCO (power), R3 IO (io), R4 IO (io), R5 IO (io), T2 IO (io), T3 IO (io), T4 IO (io), T5 IO (io), U1 IO (io), U2 IO (io), U3 IO (io), U4 IO (io), V1 VCCO (power), V2 IO (io), V3 IO (io), V4 IO_VREF (io), V5 IO (io), W1 IO (io), W3 IO (io), W4 IO_D4 (io), W5 IO_VREF (io), Y3 IO (io), Y4 IO (io), Y5 IO (io)
part C pins: AJ6 IO (io), AJ7 IO (io), AJ8 IO (io), AJ9 IO (io), AJ10 IO (io), AJ11 IO (io), AJ12 IO (io), AJ14 IO (io), AJ15 IO (io), AJ16 IO (io), AJ17 GCK1 (in), AJ18 IO_VREF (io), AJ19 IO (io), AJ20 IO (io), AJ21 IO (io), AJ22 IO (io), AJ23 IO (io), AJ24 IO (io), AJ25 IO_VREF (io), AJ26 IO (io), AJ27 IO (io), AK5 IO (io), AK6 IO (io), AK7 IO (io), AK9 IO (io), AK10 IO (io), AK12 IO (io), AK13 IO_VREF (io), AK14 IO (io), AK15 IO (io), AK16 IO (io), AK18 IO (io), AK19 IO (io), AK21 IO (io), AK22 IO (io), AK23 IO (io), AK24 IO (io), AK25 IO (io), AK26 IO (io), AK27 IO (io), AK28 IO (io), AL4 IO (io), AL5 IO (io), AL6 IO (io), AL7 IO_VREF (io), AL8 IO (io), AL9 IO_VREF (io), AL10 IO_VREF (io), AL11 IO (io), AL12 IO (io), AL13 IO (io), AL15 IO (io), AL16 IO_VREF (io), AL17 GCK0 (in), AL18 IO (io), AL19 IO (io), AL20 IO_VREF (io), AL21 IO (io), AL23 IO (io), AL24 IO_VREF (io), AL25 IO (io), AL26 IO (io), AL28 IO (io), AL29 IO_VREF (io), AL30 IO (io), AL31 VCCO (power), AM2 VCCO (power), AM4 IO_VREF (io), AM5 IO (io), AM6 IO (io), AM8 IO (io), AM9 IO (io), AM10 IO (io), AM12 IO (io), AM13 IO (io), AM14 IO_VREF (io), AM15 VCCO (power), AM16 IO (io), AM17 IO (io), AM18 IO (io), AM20 IO (io), AM21 VCCO (power), AM22 IO (io), AM23 IO (io), AM24 IO (io), AM26 IO_VREF (io), AM27 IO (io), AM29 IO (io), AM30 IO (io), AM31 IO (io), AN3 IO (io), AN4 VCCO (power), AN6 IO (io), AN7 IO (io), AN8 VCCO (power), AN9 IO (io), AN11 IO (io), AN12 VCCO (power), AN13 IO (io), AN15 IO (io), AN17 IO (io), AN18 VCCO (power), AN19 IO (io), AN21 IO (io), AN23 IO_VREF (io), AN24 VCCO (power), AN26 IO (io), AN28 IO (io), AN29 IO (io), AN30 VCCO (power), AN31 IO (io)
part D pins: AA29 IO (io), AA30 IO_VREF (io), AA31 IO (io), AA32 IO (io), AA33 IO (io), AB29 IO (io), AB30 IO (io), AB31 IO (io), AB33 VCCO (power), AC29 IO (io), AC30 IO (io), AC31 IO (io), AC33 IO (io), AD29 IO (io), AD30 IO (io), AD31 IO_VREF (io), AE29 IO_VREF (io), AE30 IO (io), AE31 IO_VREF (io), AE32 IO (io), AE33 IO (io), AF29 IO (io), AF30 IO (io), AF31 IO (io), AF32 IO (io), AF33 VCCO (power), AG29 IO (io), AG30 IO (io), AG33 IO (io), AH29 IO (io), AH30 IO (io), AH31 IO (io), AH32 IO (io), AH33 IO (io), AJ30 IO (io), AJ31 IO (io), AJ32 IO (io), AK31 IO (io), AK32 IO_VREF (io), AK33 VCCO (power), AL33 IO (io), AM32 VCCO (power), C32 VCCO (power), C33 IO (io), D31 IO (io), D32 IO (io), D33 VCCO (power), E30 IO (io), E31 IO_VREF (io), E32 IO (io), E33 IO (io), F29 IO (io), F30 IO (io), F31 IO (io), F33 IO (io), G29 IO (io), G30 IO (io), G31 IO_VREF (io), G32 IO (io), H29 IO (io), H31 IO (io), H32 IO_VREF (io), H33 IO (io), J29 IO (io), J30 IO (io), J31 IO (io), J33 IO (io), K29 IO (io), K30 IO (io), K31 IO_VREF (io), K33 VCCO (power), L29 IO (io), L30 IO (io), L31 IO (io), L32 IO (io), L33 IO_VREF (io), M29 IO (io), M30 IO (io), M31 IO (io), M32 IO (io), N30 IO (io), N31 IO (io), N32 VCCO (power), P29 IO (io), P30 IO (io), P31 IO_VREF (io), P32 IO (io), R29 IO (io), R30 IO (io), R31 IO (io), R33 IO (io), T29 IO (io), T30 IO (io), T31 IO_VREF (io), T32 IO (io), T33 VCCO (power), U29 IO (io), U31 IO (io), U32 IO (io), U33 IO (io), V29 IO_VREF (io), V30 IO (io), V31 IO (io), V32 IO (io), W29 IO (io), W30 IO (io), W31 IO (io), W32 VCCO (power), W33 IO (io), Y29 IO (io), Y30 IO (io), Y32 IO_VREF (io)
part E pins: A1 GND (power), A7 GND (power), A12 GND (power), A14 GND (power), A18 GND (power), A20 GND (power), A21 VCCINT (power), A24 GND (power), A29 GND (power), A32 GND (power), A33 GND (power), AB1 GND (power), AB2 VCCINT (power), AB32 VCCINT (power), AC2 NC, AC32 GND (power), AD2 VCCINT (power), AD32 VCCINT (power), AD33 GND (power), AE2 GND (power), AG1 GND (power), AG3 VCCINT (power), AG31 VCCINT (power), AG32 GND (power), AH2 GND (power), AJ5 DONE (io), AJ13 VCCINT (power), AJ28 DXP, AJ29 M0 (in), AJ33 GND (power), AK4 NC, AK8 VCCINT (power), AK11 VCCINT (power), AK17 VCCINT (power), AK20 VCCINT (power), AK29 DXN, AK30 M1 (in), AL3 NC, AL14 VCCINT (power), AL22 VCCINT (power), AL27 VCCINT (power), AL32 GND (power), AM1 PROGRAM (in), AM3 GND (power), AM7 GND (power), AM11 GND (power), AM19 GND (power), AM25 GND (power), AM28 GND (power), AM33 GND (power), AN1 GND (power), AN2 GND (power), AN5 GND (power), AN10 GND (power), AN14 GND (power), AN16 GND (power), AN20 GND (power), AN22 GND (power), AN25 VCCINT (power), AN27 GND (power), AN32 M2 (in), AN33 GND (power), B1 GND (power), B6 GND (power), B9 GND (power), B12 VCCINT (power), B14 VCCINT (power), B15 GND (power), B18 VCCINT (power), B23 GND (power), B27 GND (power), B28 VCCINT (power), B31 GND (power), B33 TMS (in), C2 GND (power), C4 CCLK (io), C22 VCCINT (power), C24 VCCINT (power), C31 NC, D5 TDI (in), E1 GND (power), E6 TDO (out), E9 VCCINT (power), E12 VCCINT (power), E29 TCK (in), F2 VCCINT (power), F32 GND (power), G2 GND (power), G33 GND (power), H30 VCCINT (power), J1 VCCINT (power), J32 GND (power), K1 GND (power), K32 VCCINT (power), L2 GND (power), M3 VCCINT (power), M33 GND (power), N1 VCCINT (power), N29 VCCINT (power), N33 VCCINT (power), P1 GND (power), P33 GND (power), R32 GND (power), T1 GND (power), U5 VCCINT (power), U30 VCCINT (power), V33 GND (power), W2 GND (power), Y1 GND (power), Y2 VCCINT (power), Y31 VCCINT (power), Y33 GND (power)
part A text: BANK 0; BANK 1
part B text: BANK 2; BANK 3
part C text: BANK 4; BANK 5
part D text: BANK 6; BANK 7

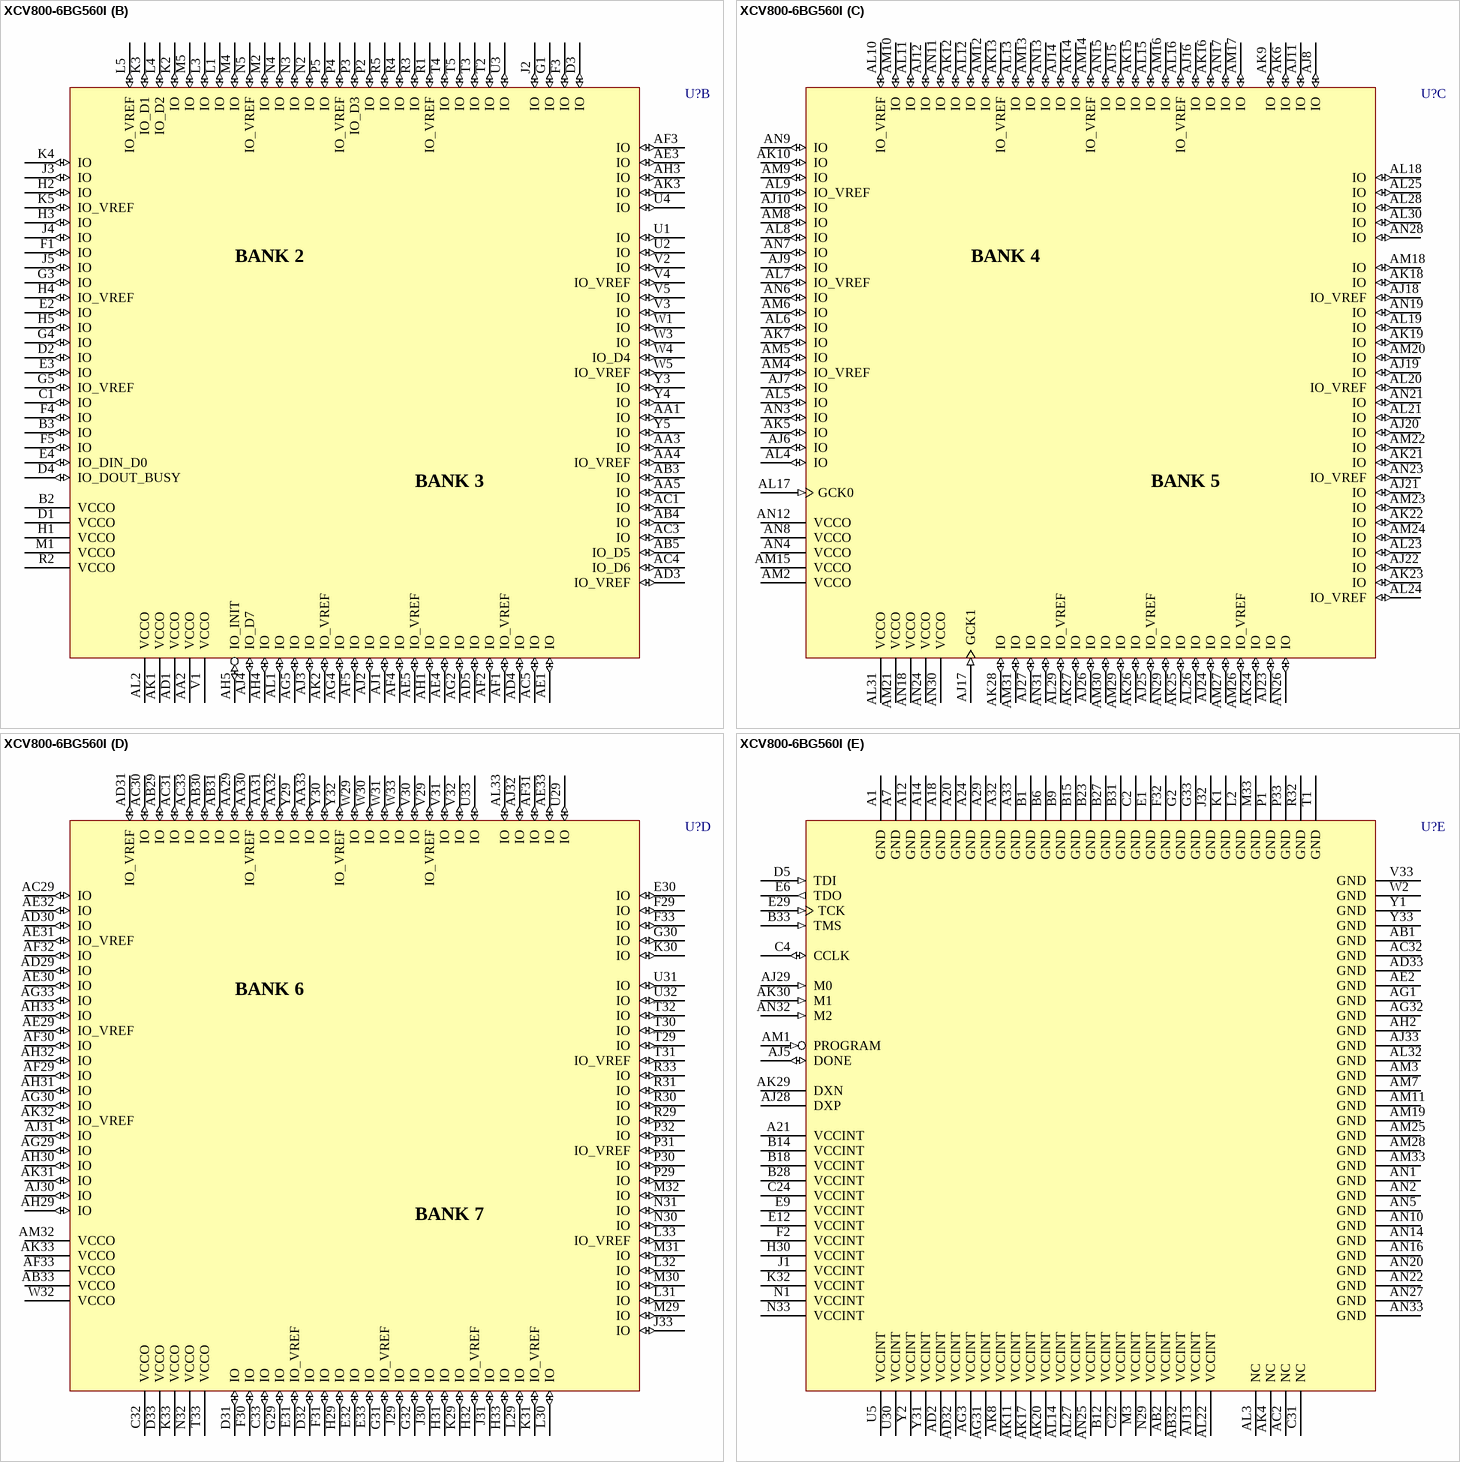
[diagram p337: symbol XCV800-6BG560I]